# Altium integrated library ST Microcontroller 8-Bit.IntLib: 1326 symbols (part 15 of 45)
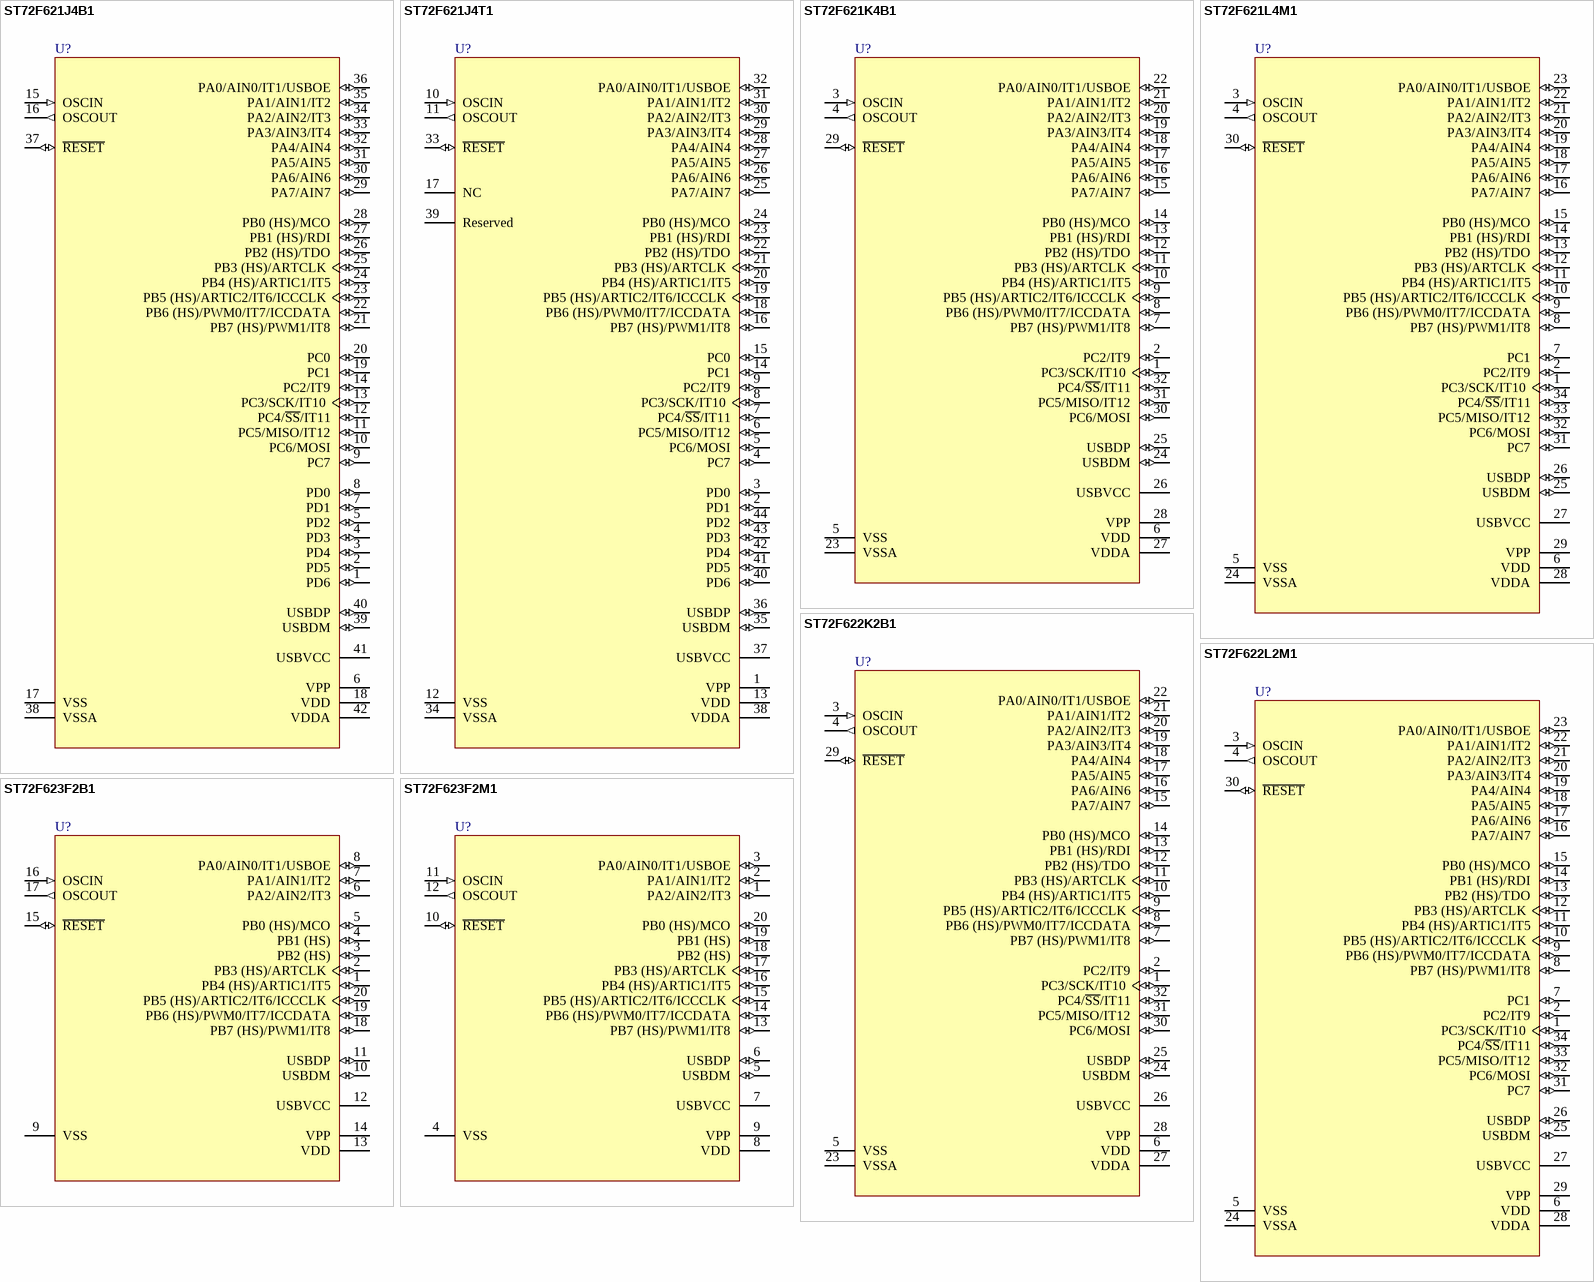
[diagram p181: symbols ST72F621J4B1 to ST72F623F2M1]

## ST72F622K2B1
designator U?
8-Bit MCU with 8k FLASH, 384b RAM, Low Speed USB, LVD, WDG, 10-Bit ADC, Two Timers and SPI, 32-Pin PDIP; Published: 26-May-2004; LatestRevisionDate: 06-Jun-2005; LatestRevisionNote: Stylized 3D Model Added.; DatasheetVersion: rev2.3, Oct-2003; PackageVersion: rev1.7, Oct-2001; PackageReference: PSDIP32; Publisher: Altium Limited; PackageDescription: DIP, Plastic Shrink; 32 Leads; Row Spacing 10.16 mm; Pitch 1.78 mm; ComponentLink1Description: Manufacturer Link; ComponentLink1URL: http://www.st.com/; ComponentLink2Description: Datasheet; ComponentLink2URL: http://www.st.com/stonline/products/literature/ds/6996/st72622k2.pdf
footprint PSDIP32 (DIP, Plastic Shrink; 32 Leads; Row Spacing 10.16 mm; Pitch 1.78 mm)
3D model PSDIP32 (DIP, Plastic Shrink; 32 Leads; Row Spacing 10.16 mm; Pitch 1.78 mm)
pins: 1 PC3/SCK/IT10 (io), 2 PC2/IT9 (io), 3 OSCIN (in), 4 OSCOUT (out), 5 VSS (power), 6 VDD (power), 7 PB7 (HS)/PWM1/IT8 (io), 8 PB6 (HS)/PWM0/IT7/ICCDATA (io), 9 PB5 (HS)/ARTIC2/IT6/ICCCLK (io), 10 PB4 (HS)/ARTIC1/IT5 (io), 11 PB3 (HS)/ARTCLK (io), 12 PB2 (HS)/TDO (io), 13 PB1 (HS)/RDI (io), 14 PB0 (HS)/MCO (io), 15 PA7/AIN7 (io), 16 PA6/AIN6 (io), 17 PA5/AIN5 (io), 18 PA4/AIN4 (io), 19 PA3/AIN3/IT4 (io), 20 PA2/AIN2/IT3 (io), 21 PA1/AIN1/IT2 (io), 22 PA0/AIN0/IT1/USBOE (io), 23 VSSA (power), 24 USBDM (io), 25 USBDP (io), 26 USBVCC (power), 27 VDDA (power), 28 VPP (power), 29 ~{RESET} (io), 30 PC6/MOSI (io), 31 PC5/MISO/IT12 (io), 32 PC4/~{SS}/IT11 (io)

## ST72F622L2M1
designator U?
8-Bit MCU with 8k FLASH, 384b RAM, Low Speed USB, LVD, WDG, 10-Bit ADC, Two Timers and SPI, 34-Pin SOIC; Published: 26-May-2004; LatestRevisionDate: 13-Apr-2006; LatestRevisionNote: IPC-7351 Footprint Added.; DatasheetVersion: rev2.3, Oct-2003; PackageVersion: rev1.7, Oct-2001; PackageReference: SO34S; Publisher: Altium Limited; PackageDescription: 34-Pin Small Outline Package 1.02 mm Pitch; ComponentLink1Description: Manufacturer Link; ComponentLink1URL: http://www.st.com/; ComponentLink2Description: Datasheet; ComponentLink2URL: http://www.st.com/stonline/products/literature/ds/6996/st72622l2.pdf
footprint SO34S_N (SOP, 34-Leads, Body 17.9x7.51mm, Pitch 1.02mm, IPC Medium Density)
footprint SO34S_L (SOP, 34-Leads, Body 17.9x7.51mm, Pitch 1.02mm, IPC High Density)
footprint SO34S_M (SOP, 34-Leads, Body 17.9x7.51mm, Pitch 1.02mm, IPC Low Density)
3D model SO34S (34-Pin Small Outline Package 1.02 mm Pitch)
pins: 1 PC3/SCK/IT10 (io), 2 PC2/IT9 (io), 3 OSCIN (in), 4 OSCOUT (out), 5 VSS (power), 6 VDD (power), 7 PC1 (io), 8 PB7 (HS)/PWM1/IT8 (io), 9 PB6 (HS)/PWM0/IT7/ICCDATA (io), 10 PB5 (HS)/ARTIC2/IT6/ICCCLK (io), 11 PB4 (HS)/ARTIC1/IT5 (io), 12 PB3 (HS)/ARTCLK (io), 13 PB2 (HS)/TDO (io), 14 PB1 (HS)/RDI (io), 15 PB0 (HS)/MCO (io), 16 PA7/AIN7 (io), 17 PA6/AIN6 (io), 18 PA5/AIN5 (io), 19 PA4/AIN4 (io), 20 PA3/AIN3/IT4 (io), 21 PA2/AIN2/IT3 (io), 22 PA1/AIN1/IT2 (io), 23 PA0/AIN0/IT1/USBOE (io), 24 VSSA (power), 25 USBDM (io), 26 USBDP (io), 27 USBVCC (power), 28 VDDA (power), 29 VPP (power), 30 ~{RESET} (io), 31 PC7 (io), 32 PC6/MOSI (io), 33 PC5/MISO/IT12 (io), 34 PC4/~{SS}/IT11 (io)

## ST72F623F2B1
designator U?
8-Bit MCU with 8k FLASH, 384b RAM, Low Speed USB, LVD, WDG, 10-Bit ADC and Two Timers, 20-Pin PDIP; Published: 26-May-2004; LatestRevisionDate: 06-Jun-2005; LatestRevisionNote: Stylized 3D Model Added.; DatasheetVersion: rev2.3, Oct-2003; PackageVersion: Jul-2003; PackageReference: PDIP20; Publisher: Altium Limited; PackageDescription: DIP; 20 Leads; Row Spacing 7.62 mm; Pitch 2.54 mm; Code_JEDEC: MS-001-AD; ComponentLink1Description: Manufacturer Link; ComponentLink1URL: http://www.st.com/; ComponentLink2Description: Datasheet; ComponentLink2URL: http://www.st.com/stonline/products/literature/ds/6996/st72623f2.pdf
footprint PDIP20 (DIP; 20 Leads; Row Spacing 7.62 mm; Pitch 2.54 mm)
3D model PDIP20 (DIP; 20 Leads; Row Spacing 7.62 mm; Pitch 2.54 mm)
pins: 1 PB4 (HS)/ARTIC1/IT5 (io), 2 PB3 (HS)/ARTCLK (io), 3 PB2 (HS) (io), 4 PB1 (HS) (io), 5 PB0 (HS)/MCO (io), 6 PA2/AIN2/IT3 (io), 7 PA1/AIN1/IT2 (io), 8 PA0/AIN0/IT1/USBOE (io), 9 VSS (power), 10 USBDM (io), 11 USBDP (io), 12 USBVCC (power), 13 VDD (power), 14 VPP (power), 15 ~{RESET} (io), 16 OSCIN (in), 17 OSCOUT (out), 18 PB7 (HS)/PWM1/IT8 (io), 19 PB6 (HS)/PWM0/IT7/ICCDATA (io), 20 PB5 (HS)/ARTIC2/IT6/ICCCLK (io)

## ST72F623F2M1
designator U?
8-Bit MCU with 8k FLASH, 384b RAM, Low Speed USB, LVD, WDG, 10-Bit ADC and Two Timers, 20-Pin SOIC; Published: 26-May-2004; LatestRevisionDate: 13-Apr-2006; LatestRevisionNote: IPC-7351 Footprint Added.; DatasheetVersion: rev2.3, Oct-2003; PackageVersion: Jul-2001; PackageReference: SO20; Publisher: Altium Limited; PackageDescription: 20-Pin Plastic Small Outline Integrated Circuit 1.27 mm Pitch; Code_JEDEC: MS-013-AC; Code_IPC: SOIC127P1030-20; ComponentLink1Description: Manufacturer Link; ComponentLink1URL: http://www.st.com/; ComponentLink2Description: Datasheet; ComponentLink2URL: http://www.st.com/stonline/products/literature/ds/6996/st72623f2.pdf
footprint SO20_N (SOIC, 20-Leads, Body 12.8x7.5mm, Pitch 1.27mm, IPC Medium Density)
footprint SO20_L (SOIC, 20-Leads, Body 12.8x7.5mm, Pitch 1.27mm, IPC High Density)
footprint SO20_M (SOIC, 20-Leads, Body 12.8x7.5mm, Pitch 1.27mm, IPC Low Density)
3D model SO20 (20-Pin Plastic Small Outline Integrated Circuit 1.27 mm Pitch)
pins: 1 PA2/AIN2/IT3 (io), 2 PA1/AIN1/IT2 (io), 3 PA0/AIN0/IT1/USBOE (io), 4 VSS (power), 5 USBDM (io), 6 USBDP (io), 7 USBVCC (power), 8 VDD (power), 9 VPP (power), 10 ~{RESET} (io), 11 OSCIN (in), 12 OSCOUT (out), 13 PB7 (HS)/PWM1/IT8 (io), 14 PB6 (HS)/PWM0/IT7/ICCDATA (io), 15 PB5 (HS)/ARTIC2/IT6/ICCCLK (io), 16 PB4 (HS)/ARTIC1/IT5 (io), 17 PB3 (HS)/ARTCLK (io), 18 PB2 (HS) (io), 19 PB1 (HS) (io), 20 PB0 (HS)/MCO (io)

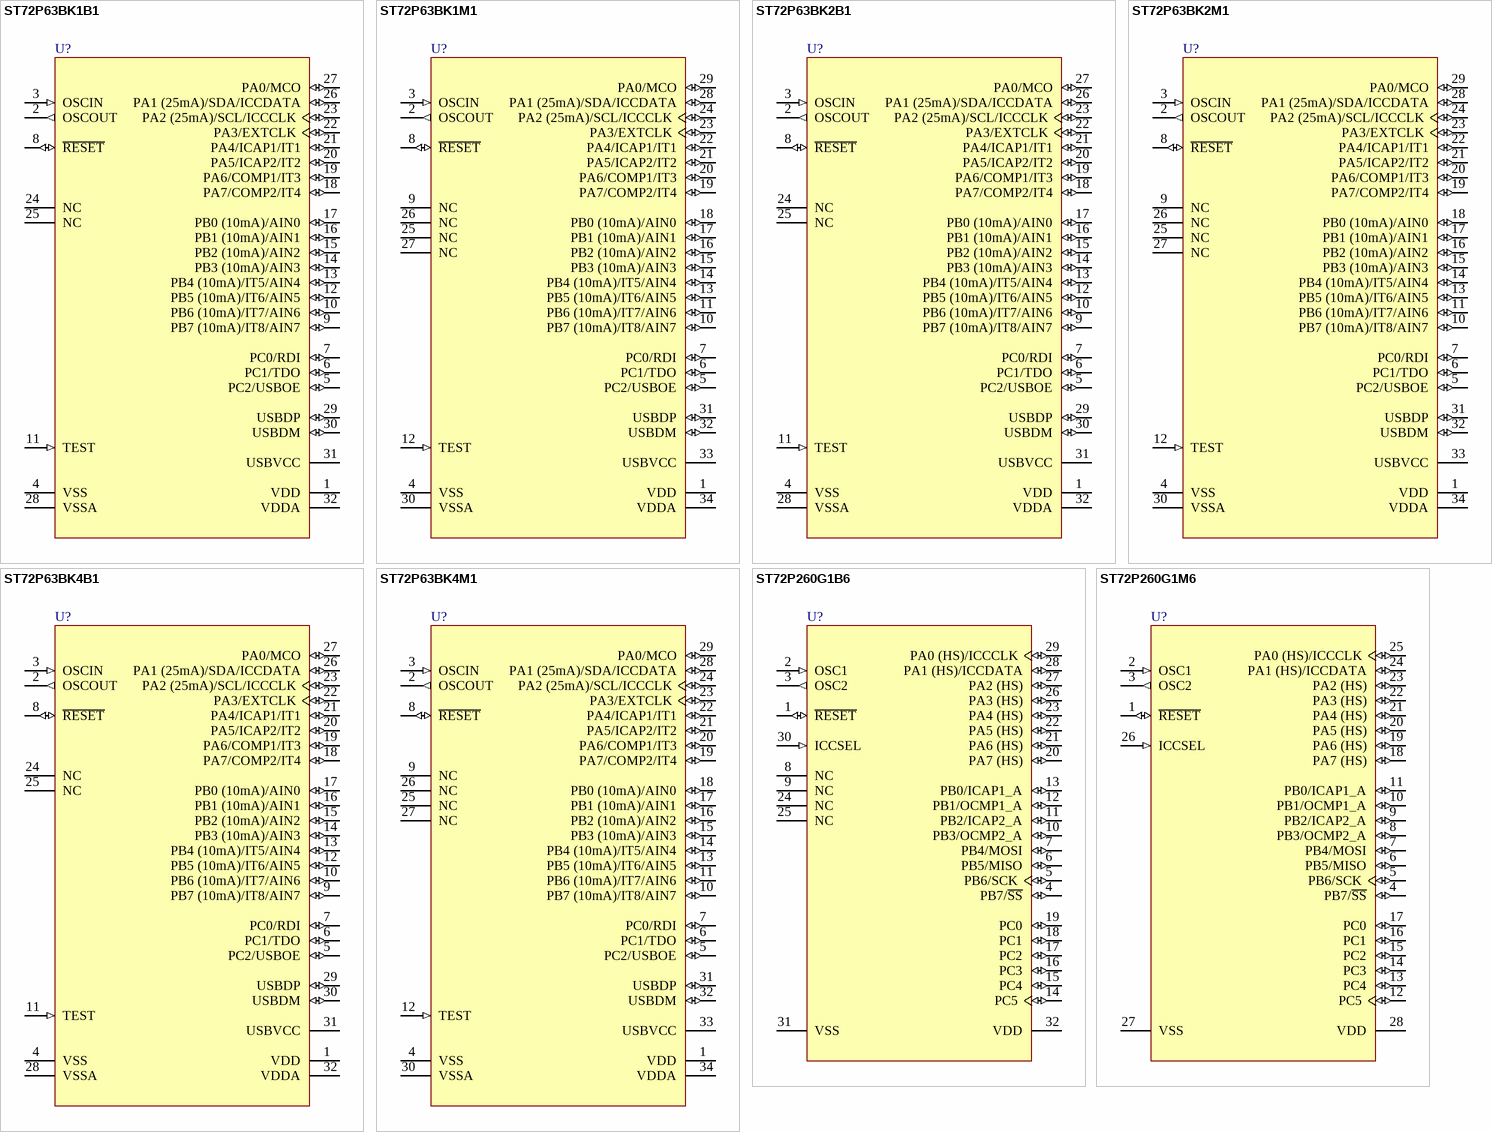
[diagram p45: symbols ST72P63BK1B1 to ST72P260G1M6]

## ST72P63BK1B1
designator U?
8-Bit MCU with 4k FASTROM, 384b RAM, Low Speed USB, 8-Bit ADC, WDG, Timer, 32-Pin PDIP; Published: 26-May-2004; LatestRevisionDate: 06-Jun-2005; LatestRevisionNote: Stylized 3D Model Added.; DatasheetVersion: rev1.5, Apr-2003; PackageVersion: rev1.7, Oct-2001; PackageReference: PSDIP32; Publisher: Altium Limited; PackageDescription: DIP, Plastic Shrink; 32 Leads; Row Spacing 10.16 mm; Pitch 1.78 mm; ComponentLink1Description: Manufacturer Link; ComponentLink1URL: http://www.st.com/; ComponentLink2Description: Datasheet; ComponentLink2URL: http://www.st.com/stonline/products/literature/ds/7516/st7263b.pdf
footprint PSDIP32 (DIP, Plastic Shrink; 32 Leads; Row Spacing 10.16 mm; Pitch 1.78 mm)
3D model PSDIP32 (DIP, Plastic Shrink; 32 Leads; Row Spacing 10.16 mm; Pitch 1.78 mm)
pins: 1 VDD (power), 2 OSCOUT (out), 3 OSCIN (in), 4 VSS (power), 5 PC2/USBOE (io), 6 PC1/TDO (io), 7 PC0/RDI (io), 8 ~{RESET} (io), 9 PB7 (10mA)/IT8/AIN7 (io), 10 PB6 (10mA)/IT7/AIN6 (io), 11 TEST (in), 12 PB5 (10mA)/IT6/AIN5 (io), 13 PB4 (10mA)/IT5/AIN4 (io), 14 PB3 (10mA)/AIN3 (io), 15 PB2 (10mA)/AIN2 (io), 16 PB1 (10mA)/AIN1 (io), 17 PB0 (10mA)/AIN0 (io), 18 PA7/COMP2/IT4 (io), 19 PA6/COMP1/IT3 (io), 20 PA5/ICAP2/IT2 (io), 21 PA4/ICAP1/IT1 (io), 22 PA3/EXTCLK (io), 23 PA2 (25mA)/SCL/ICCCLK (io), 24 NC, 25 NC, 26 PA1 (25mA)/SDA/ICCDATA (io), 27 PA0/MCO (io), 28 VSSA (power), 29 USBDP (io), 30 USBDM (io), 31 USBVCC (power), 32 VDDA (power)

## ST72P63BK1M1
designator U?
8-Bit MCU with 4k FASTROM, 384b RAM, Low Speed USB, 8-Bit ADC, WDG, Timer, 34-Pin SOIC; Published: 26-May-2004; LatestRevisionDate: 13-Apr-2006; LatestRevisionNote: IPC-7351 Footprint Added.; DatasheetVersion: rev1.5, Apr-2003; PackageVersion: rev1.7, Oct-2001; PackageReference: SO34S; Publisher: Altium Limited; PackageDescription: 34-Pin Small Outline Package 1.02 mm Pitch; ComponentLink1Description: Manufacturer Link; ComponentLink1URL: http://www.st.com/; ComponentLink2Description: Datasheet; ComponentLink2URL: http://www.st.com/stonline/products/literature/ds/7516/st7263b.pdf
footprint SO34S_N (SOP, 34-Leads, Body 17.9x7.51mm, Pitch 1.02mm, IPC Medium Density)
footprint SO34S_L (SOP, 34-Leads, Body 17.9x7.51mm, Pitch 1.02mm, IPC High Density)
footprint SO34S_M (SOP, 34-Leads, Body 17.9x7.51mm, Pitch 1.02mm, IPC Low Density)
3D model SO34S (34-Pin Small Outline Package 1.02 mm Pitch)
pins: 1 VDD (power), 2 OSCOUT (out), 3 OSCIN (in), 4 VSS (power), 5 PC2/USBOE (io), 6 PC1/TDO (io), 7 PC0/RDI (io), 8 ~{RESET} (io), 9 NC, 10 PB7 (10mA)/IT8/AIN7 (io), 11 PB6 (10mA)/IT7/AIN6 (io), 12 TEST (in), 13 PB5 (10mA)/IT6/AIN5 (io), 14 PB4 (10mA)/IT5/AIN4 (io), 15 PB3 (10mA)/AIN3 (io), 16 PB2 (10mA)/AIN2 (io), 17 PB1 (10mA)/AIN1 (io), 18 PB0 (10mA)/AIN0 (io), 19 PA7/COMP2/IT4 (io), 20 PA6/COMP1/IT3 (io), 21 PA5/ICAP2/IT2 (io), 22 PA4/ICAP1/IT1 (io), 23 PA3/EXTCLK (io), 24 PA2 (25mA)/SCL/ICCCLK (io), 25 NC, 26 NC, 27 NC, 28 PA1 (25mA)/SDA/ICCDATA (io), 29 PA0/MCO (io), 30 VSSA (power), 31 USBDP (io), 32 USBDM (io), 33 USBVCC (power), 34 VDDA (power)

## ST72P63BK2B1
designator U?
8-Bit MCU with 8k FASTROM, 384b RAM, Low Speed USB, 8-Bit ADC, WDG, Timer and SCI, 32-Pin PDIP; Published: 26-May-2004; LatestRevisionDate: 06-Jun-2005; LatestRevisionNote: Stylized 3D Model Added.; DatasheetVersion: rev1.5, Apr-2003; PackageVersion: rev1.7, Oct-2001; PackageReference: PSDIP32; Publisher: Altium Limited; PackageDescription: DIP, Plastic Shrink; 32 Leads; Row Spacing 10.16 mm; Pitch 1.78 mm; ComponentLink1Description: Manufacturer Link; ComponentLink1URL: http://www.st.com/; ComponentLink2Description: Datasheet; ComponentLink2URL: http://www.st.com/stonline/products/literature/ds/7516/st7263b.pdf
footprint PSDIP32 (DIP, Plastic Shrink; 32 Leads; Row Spacing 10.16 mm; Pitch 1.78 mm)
3D model PSDIP32 (DIP, Plastic Shrink; 32 Leads; Row Spacing 10.16 mm; Pitch 1.78 mm)
pins: 1 VDD (power), 2 OSCOUT (out), 3 OSCIN (in), 4 VSS (power), 5 PC2/USBOE (io), 6 PC1/TDO (io), 7 PC0/RDI (io), 8 ~{RESET} (io), 9 PB7 (10mA)/IT8/AIN7 (io), 10 PB6 (10mA)/IT7/AIN6 (io), 11 TEST (in), 12 PB5 (10mA)/IT6/AIN5 (io), 13 PB4 (10mA)/IT5/AIN4 (io), 14 PB3 (10mA)/AIN3 (io), 15 PB2 (10mA)/AIN2 (io), 16 PB1 (10mA)/AIN1 (io), 17 PB0 (10mA)/AIN0 (io), 18 PA7/COMP2/IT4 (io), 19 PA6/COMP1/IT3 (io), 20 PA5/ICAP2/IT2 (io), 21 PA4/ICAP1/IT1 (io), 22 PA3/EXTCLK (io), 23 PA2 (25mA)/SCL/ICCCLK (io), 24 NC, 25 NC, 26 PA1 (25mA)/SDA/ICCDATA (io), 27 PA0/MCO (io), 28 VSSA (power), 29 USBDP (io), 30 USBDM (io), 31 USBVCC (power), 32 VDDA (power)

## ST72P63BK2M1
designator U?
8-Bit MCU with 8k FASTROM, 384b RAM, Low Speed USB, 8-Bit ADC, WDG, Timer and SCI, 34-Pin SOIC; Published: 26-May-2004; LatestRevisionDate: 13-Apr-2006; LatestRevisionNote: IPC-7351 Footprint Added.; DatasheetVersion: rev1.5, Apr-2003; PackageVersion: rev1.7, Oct-2001; PackageReference: SO34S; Publisher: Altium Limited; PackageDescription: 34-Pin Small Outline Package 1.02 mm Pitch; ComponentLink1Description: Manufacturer Link; ComponentLink1URL: http://www.st.com/; ComponentLink2Description: Datasheet; ComponentLink2URL: http://www.st.com/stonline/products/literature/ds/7516/st7263b.pdf
footprint SO34S_N (SOP, 34-Leads, Body 17.9x7.51mm, Pitch 1.02mm, IPC Medium Density)
footprint SO34S_L (SOP, 34-Leads, Body 17.9x7.51mm, Pitch 1.02mm, IPC High Density)
footprint SO34S_M (SOP, 34-Leads, Body 17.9x7.51mm, Pitch 1.02mm, IPC Low Density)
3D model SO34S (34-Pin Small Outline Package 1.02 mm Pitch)
pins: 1 VDD (power), 2 OSCOUT (out), 3 OSCIN (in), 4 VSS (power), 5 PC2/USBOE (io), 6 PC1/TDO (io), 7 PC0/RDI (io), 8 ~{RESET} (io), 9 NC, 10 PB7 (10mA)/IT8/AIN7 (io), 11 PB6 (10mA)/IT7/AIN6 (io), 12 TEST (in), 13 PB5 (10mA)/IT6/AIN5 (io), 14 PB4 (10mA)/IT5/AIN4 (io), 15 PB3 (10mA)/AIN3 (io), 16 PB2 (10mA)/AIN2 (io), 17 PB1 (10mA)/AIN1 (io), 18 PB0 (10mA)/AIN0 (io), 19 PA7/COMP2/IT4 (io), 20 PA6/COMP1/IT3 (io), 21 PA5/ICAP2/IT2 (io), 22 PA4/ICAP1/IT1 (io), 23 PA3/EXTCLK (io), 24 PA2 (25mA)/SCL/ICCCLK (io), 25 NC, 26 NC, 27 NC, 28 PA1 (25mA)/SDA/ICCDATA (io), 29 PA0/MCO (io), 30 VSSA (power), 31 USBDP (io), 32 USBDM (io), 33 USBVCC (power), 34 VDDA (power)

## ST72P63BK4B1
designator U?
8-Bit MCU with 16k FASTROM, 512b RAM, Low Speed USB, 8-Bit ADC, WDG, Timer, SCI and I²C, 32-Pin PDIP; Published: 26-May-2004; LatestRevisionDate: 06-Jun-2005; LatestRevisionNote: Stylized 3D Model Added.; DatasheetVersion: rev1.5, Apr-2003; PackageVersion: rev1.7, Oct-2001; PackageReference: PSDIP32; Publisher: Altium Limited; PackageDescription: DIP, Plastic Shrink; 32 Leads; Row Spacing 10.16 mm; Pitch 1.78 mm; ComponentLink1Description: Manufacturer Link; ComponentLink1URL: http://www.st.com/; ComponentLink2Description: Datasheet; ComponentLink2URL: http://www.st.com/stonline/products/literature/ds/7516/st7263b.pdf
footprint PSDIP32 (DIP, Plastic Shrink; 32 Leads; Row Spacing 10.16 mm; Pitch 1.78 mm)
3D model PSDIP32 (DIP, Plastic Shrink; 32 Leads; Row Spacing 10.16 mm; Pitch 1.78 mm)
pins: 1 VDD (power), 2 OSCOUT (out), 3 OSCIN (in), 4 VSS (power), 5 PC2/USBOE (io), 6 PC1/TDO (io), 7 PC0/RDI (io), 8 ~{RESET} (io), 9 PB7 (10mA)/IT8/AIN7 (io), 10 PB6 (10mA)/IT7/AIN6 (io), 11 TEST (in), 12 PB5 (10mA)/IT6/AIN5 (io), 13 PB4 (10mA)/IT5/AIN4 (io), 14 PB3 (10mA)/AIN3 (io), 15 PB2 (10mA)/AIN2 (io), 16 PB1 (10mA)/AIN1 (io), 17 PB0 (10mA)/AIN0 (io), 18 PA7/COMP2/IT4 (io), 19 PA6/COMP1/IT3 (io), 20 PA5/ICAP2/IT2 (io), 21 PA4/ICAP1/IT1 (io), 22 PA3/EXTCLK (io), 23 PA2 (25mA)/SCL/ICCCLK (io), 24 NC, 25 NC, 26 PA1 (25mA)/SDA/ICCDATA (io), 27 PA0/MCO (io), 28 VSSA (power), 29 USBDP (io), 30 USBDM (io), 31 USBVCC (power), 32 VDDA (power)

## ST72P63BK4M1
designator U?
8-Bit MCU with 16k FASTROM, 512b RAM, Low Speed USB, 8-Bit ADC, WDG, Timer, SCI and I²C, 34-Pin SOIC; Published: 26-May-2004; LatestRevisionDate: 13-Apr-2006; LatestRevisionNote: IPC-7351 Footprint Added.; DatasheetVersion: rev1.5, Apr-2003; PackageVersion: rev1.7, Oct-2001; PackageReference: SO34S; Publisher: Altium Limited; PackageDescription: 34-Pin Small Outline Package 1.02 mm Pitch; ComponentLink1Description: Manufacturer Link; ComponentLink1URL: http://www.st.com/; ComponentLink2Description: Datasheet; ComponentLink2URL: http://www.st.com/stonline/products/literature/ds/7516/st7263b.pdf
footprint SO34S_N (SOP, 34-Leads, Body 17.9x7.51mm, Pitch 1.02mm, IPC Medium Density)
footprint SO34S_L (SOP, 34-Leads, Body 17.9x7.51mm, Pitch 1.02mm, IPC High Density)
footprint SO34S_M (SOP, 34-Leads, Body 17.9x7.51mm, Pitch 1.02mm, IPC Low Density)
3D model SO34S (34-Pin Small Outline Package 1.02 mm Pitch)
pins: 1 VDD (power), 2 OSCOUT (out), 3 OSCIN (in), 4 VSS (power), 5 PC2/USBOE (io), 6 PC1/TDO (io), 7 PC0/RDI (io), 8 ~{RESET} (io), 9 NC, 10 PB7 (10mA)/IT8/AIN7 (io), 11 PB6 (10mA)/IT7/AIN6 (io), 12 TEST (in), 13 PB5 (10mA)/IT6/AIN5 (io), 14 PB4 (10mA)/IT5/AIN4 (io), 15 PB3 (10mA)/AIN3 (io), 16 PB2 (10mA)/AIN2 (io), 17 PB1 (10mA)/AIN1 (io), 18 PB0 (10mA)/AIN0 (io), 19 PA7/COMP2/IT4 (io), 20 PA6/COMP1/IT3 (io), 21 PA5/ICAP2/IT2 (io), 22 PA4/ICAP1/IT1 (io), 23 PA3/EXTCLK (io), 24 PA2 (25mA)/SCL/ICCCLK (io), 25 NC, 26 NC, 27 NC, 28 PA1 (25mA)/SDA/ICCDATA (io), 29 PA0/MCO (io), 30 VSSA (power), 31 USBDP (io), 32 USBDM (io), 33 USBVCC (power), 34 VDDA (power)

## ST72P260G1B6
designator U?
8-Bit MCU with 4k FASTROM Memory, 256b RAM, 16-Bit Timers, WDG, RTC and SPI Interface, 32-Pin PDIP, Industrial; Published: 26-May-2004; LatestRevisionDate: 06-Jun-2005; LatestRevisionNote: Stylized 3D Model Added.; DatasheetVersion: rev1.8, Nov-2003; PackageVersion: rev1.7, Oct-2001; PackageReference: PSDIP32; Publisher: Altium Limited; PackageDescription: DIP, Plastic Shrink; 32 Leads; Row Spacing 10.16 mm; Pitch 1.78 mm; ComponentLink1Description: Manufacturer Link; ComponentLink1URL: http://www.st.com/; ComponentLink2Description: Datasheet; ComponentLink2URL: http://www.st.com/stonline/products/literature/ds/8347/st72260g.pdf
footprint PSDIP32 (DIP, Plastic Shrink; 32 Leads; Row Spacing 10.16 mm; Pitch 1.78 mm)
3D model PSDIP32 (DIP, Plastic Shrink; 32 Leads; Row Spacing 10.16 mm; Pitch 1.78 mm)
pins: 1 ~{RESET} (io), 2 OSC1 (in), 3 OSC2 (out), 4 PB7/~{SS} (io), 5 PB6/SCK (io), 6 PB5/MISO (io), 7 PB4/MOSI (io), 8 NC, 9 NC, 10 PB3/OCMP2_A (io), 11 PB2/ICAP2_A (io), 12 PB1/OCMP1_A (io), 13 PB0/ICAP1_A (io), 14 PC5 (io), 15 PC4 (io), 16 PC3 (io), 17 PC2 (io), 18 PC1 (io), 19 PC0 (io), 20 PA7 (HS) (io), 21 PA6 (HS) (io), 22 PA5 (HS) (io), 23 PA4 (HS) (io), 24 NC, 25 NC, 26 PA3 (HS) (io), 27 PA2 (HS) (io), 28 PA1 (HS)/ICCDATA (io), 29 PA0 (HS)/ICCCLK (io), 30 ICCSEL (in), 31 VSS (power), 32 VDD (power)

## ST72P260G1M6
designator U?
8-Bit MCU with 4k FASTROM Memory, 256b RAM, 16-Bit Timers, WDG, RTC and SPI Interface, 28-Pin SOIC, Industrial; Published: 26-May-2004; LatestRevisionDate: 13-Apr-2006; LatestRevisionNote: IPC-7351 Footprint Added.; DatasheetVersion: rev1.8, Nov-2003; PackageVersion: Jul-2001; PackageReference: SO28; Publisher: Altium Limited; PackageDescription: 28-Pin Plastic Small Outline Integrated Circuit 1.27 mm Pitch; ComponentLink1Description: Manufacturer Link; ComponentLink1URL: http://www.st.com/; ComponentLink2Description: Datasheet; ComponentLink2URL: http://www.st.com/stonline/products/literature/ds/8347/st72260g.pdf
footprint SO28_N (SOIC, 28-Leads, Body 17.9x7.5mm, Pitch 1.27mm, IPC Medium Density)
footprint SO28_L (SOIC, 28-Leads, Body 17.9x7.5mm, Pitch 1.27mm, IPC High Density)
footprint SO28_M (SOIC, 28-Leads, Body 17.9x7.5mm, Pitch 1.27mm, IPC Low Density)
3D model SO28 (28-Pin Plastic Small Outline Integrated Circuit 1.27 mm Pitch)
pins: 1 ~{RESET} (io), 2 OSC1 (in), 3 OSC2 (out), 4 PB7/~{SS} (io), 5 PB6/SCK (io), 6 PB5/MISO (io), 7 PB4/MOSI (io), 8 PB3/OCMP2_A (io), 9 PB2/ICAP2_A (io), 10 PB1/OCMP1_A (io), 11 PB0/ICAP1_A (io), 12 PC5 (io), 13 PC4 (io), 14 PC3 (io), 15 PC2 (io), 16 PC1 (io), 17 PC0 (io), 18 PA7 (HS) (io), 19 PA6 (HS) (io), 20 PA5 (HS) (io), 21 PA4 (HS) (io), 22 PA3 (HS) (io), 23 PA2 (HS) (io), 24 PA1 (HS)/ICCDATA (io), 25 PA0 (HS)/ICCCLK (io), 26 ICCSEL (in), 27 VSS (power), 28 VDD (power)

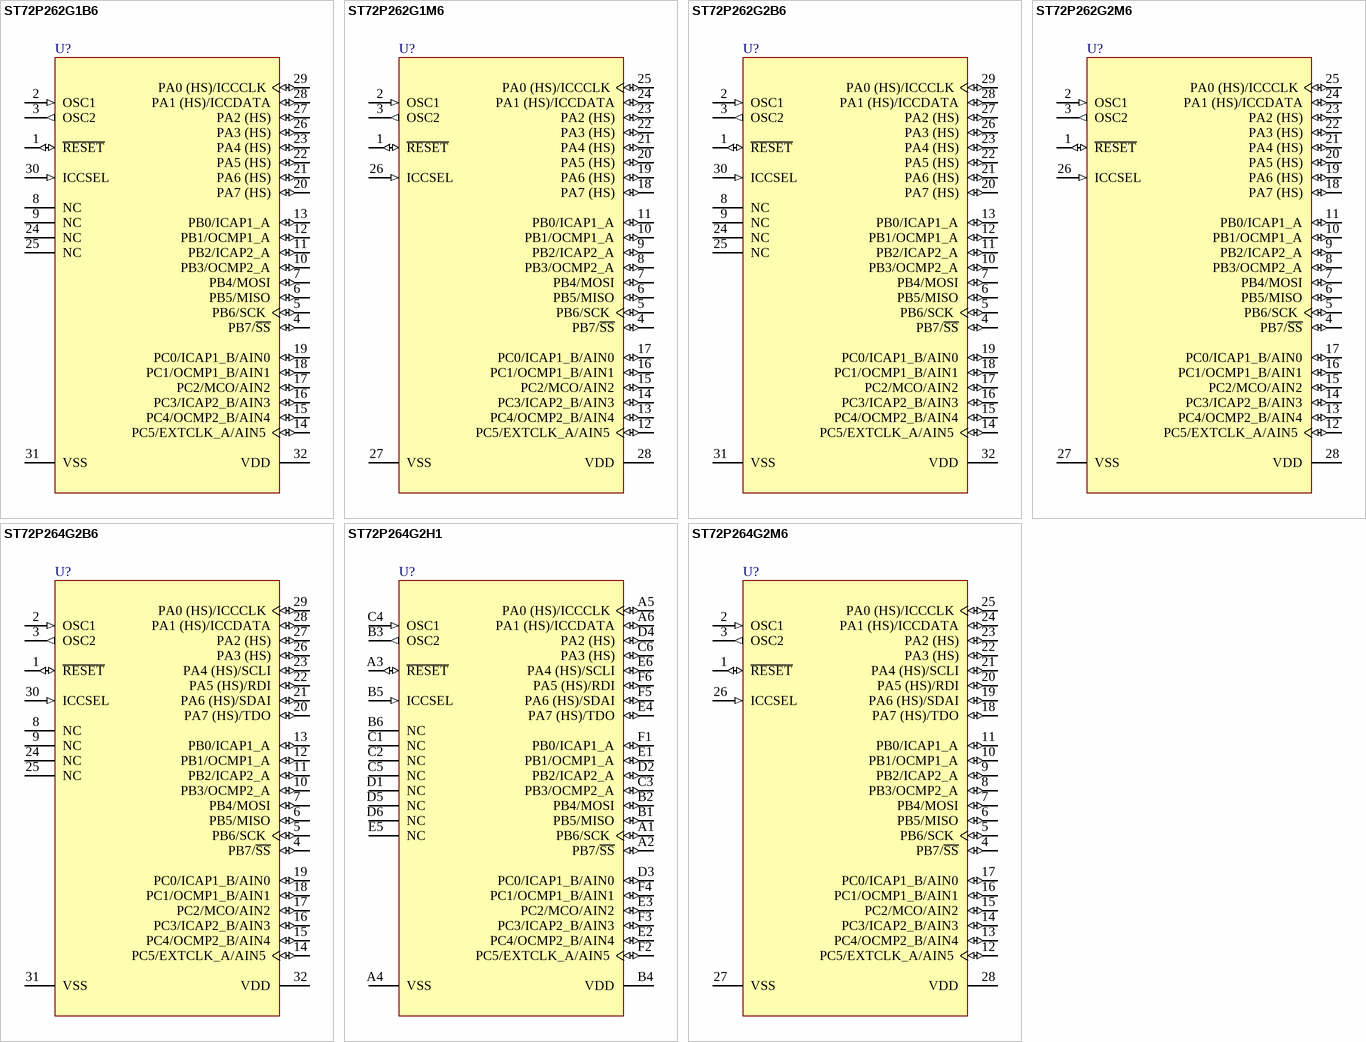
[diagram p46: symbols ST72P262G1B6 to ST72P264G2M6]

## ST72P262G1B6
designator U?
8-Bit MCU with 4k FASTROM Memory, 256b RAM, ADC, 16-Bit Timers, WDG, RTC and SPI Interface, 32-Pin PDIP, Industrial; Published: 26-May-2004; LatestRevisionDate: 06-Jun-2005; LatestRevisionNote: Stylized 3D Model Added.; DatasheetVersion: rev1.8, Nov-2003; PackageVersion: rev1.7, Oct-2001; PackageReference: PSDIP32; Publisher: Altium Limited; PackageDescription: DIP, Plastic Shrink; 32 Leads; Row Spacing 10.16 mm; Pitch 1.78 mm; ComponentLink1Description: Manufacturer Link; ComponentLink1URL: http://www.st.com/; ComponentLink2Description: Datasheet; ComponentLink2URL: http://www.st.com/stonline/products/literature/ds/8347/st72262g.pdf
footprint PSDIP32 (DIP, Plastic Shrink; 32 Leads; Row Spacing 10.16 mm; Pitch 1.78 mm)
3D model PSDIP32 (DIP, Plastic Shrink; 32 Leads; Row Spacing 10.16 mm; Pitch 1.78 mm)
pins: 1 ~{RESET} (io), 2 OSC1 (in), 3 OSC2 (out), 4 PB7/~{SS} (io), 5 PB6/SCK (io), 6 PB5/MISO (io), 7 PB4/MOSI (io), 8 NC, 9 NC, 10 PB3/OCMP2_A (io), 11 PB2/ICAP2_A (io), 12 PB1/OCMP1_A (io), 13 PB0/ICAP1_A (io), 14 PC5/EXTCLK_A/AIN5 (io), 15 PC4/OCMP2_B/AIN4 (io), 16 PC3/ICAP2_B/AIN3 (io), 17 PC2/MCO/AIN2 (io), 18 PC1/OCMP1_B/AIN1 (io), 19 PC0/ICAP1_B/AIN0 (io), 20 PA7 (HS) (io), 21 PA6 (HS) (io), 22 PA5 (HS) (io), 23 PA4 (HS) (io), 24 NC, 25 NC, 26 PA3 (HS) (io), 27 PA2 (HS) (io), 28 PA1 (HS)/ICCDATA (io), 29 PA0 (HS)/ICCCLK (io), 30 ICCSEL (in), 31 VSS (power), 32 VDD (power)

## ST72P262G1M6
designator U?
8-Bit MCU with 4k FASTROM Memory, 256b RAM, ADC, 16-Bit Timers, WDG, RTC and SPI Interface, 28-Pin SOIC, Industrial; Published: 26-May-2004; LatestRevisionDate: 13-Apr-2006; LatestRevisionNote: IPC-7351 Footprint Added.; DatasheetVersion: rev1.8, Nov-2003; PackageVersion: Jul-2001; PackageReference: SO28; Publisher: Altium Limited; PackageDescription: 28-Pin Plastic Small Outline Integrated Circuit 1.27 mm Pitch; ComponentLink1Description: Manufacturer Link; ComponentLink1URL: http://www.st.com/; ComponentLink2Description: Datasheet; ComponentLink2URL: http://www.st.com/stonline/products/literature/ds/8347/st72262g.pdf
footprint SO28_N (SOIC, 28-Leads, Body 17.9x7.5mm, Pitch 1.27mm, IPC Medium Density)
footprint SO28_L (SOIC, 28-Leads, Body 17.9x7.5mm, Pitch 1.27mm, IPC High Density)
footprint SO28_M (SOIC, 28-Leads, Body 17.9x7.5mm, Pitch 1.27mm, IPC Low Density)
3D model SO28 (28-Pin Plastic Small Outline Integrated Circuit 1.27 mm Pitch)
pins: 1 ~{RESET} (io), 2 OSC1 (in), 3 OSC2 (out), 4 PB7/~{SS} (io), 5 PB6/SCK (io), 6 PB5/MISO (io), 7 PB4/MOSI (io), 8 PB3/OCMP2_A (io), 9 PB2/ICAP2_A (io), 10 PB1/OCMP1_A (io), 11 PB0/ICAP1_A (io), 12 PC5/EXTCLK_A/AIN5 (io), 13 PC4/OCMP2_B/AIN4 (io), 14 PC3/ICAP2_B/AIN3 (io), 15 PC2/MCO/AIN2 (io), 16 PC1/OCMP1_B/AIN1 (io), 17 PC0/ICAP1_B/AIN0 (io), 18 PA7 (HS) (io), 19 PA6 (HS) (io), 20 PA5 (HS) (io), 21 PA4 (HS) (io), 22 PA3 (HS) (io), 23 PA2 (HS) (io), 24 PA1 (HS)/ICCDATA (io), 25 PA0 (HS)/ICCCLK (io), 26 ICCSEL (in), 27 VSS (power), 28 VDD (power)

## ST72P262G2B6
designator U?
8-Bit MCU with 8k FASTROM Memory, 256b RAM, ADC, 16-Bit Timers, WDG, RTC and SPI Interface, 32-Pin PDIP, Industrial; Published: 26-May-2004; LatestRevisionDate: 06-Jun-2005; LatestRevisionNote: Stylized 3D Model Added.; DatasheetVersion: rev1.8, Nov-2003; PackageVersion: rev1.7, Oct-2001; PackageReference: PSDIP32; Publisher: Altium Limited; PackageDescription: DIP, Plastic Shrink; 32 Leads; Row Spacing 10.16 mm; Pitch 1.78 mm; ComponentLink1Description: Manufacturer Link; ComponentLink1URL: http://www.st.com/; ComponentLink2Description: Datasheet; ComponentLink2URL: http://www.st.com/stonline/products/literature/ds/8347/st72262g.pdf
footprint PSDIP32 (DIP, Plastic Shrink; 32 Leads; Row Spacing 10.16 mm; Pitch 1.78 mm)
3D model PSDIP32 (DIP, Plastic Shrink; 32 Leads; Row Spacing 10.16 mm; Pitch 1.78 mm)
pins: 1 ~{RESET} (io), 2 OSC1 (in), 3 OSC2 (out), 4 PB7/~{SS} (io), 5 PB6/SCK (io), 6 PB5/MISO (io), 7 PB4/MOSI (io), 8 NC, 9 NC, 10 PB3/OCMP2_A (io), 11 PB2/ICAP2_A (io), 12 PB1/OCMP1_A (io), 13 PB0/ICAP1_A (io), 14 PC5/EXTCLK_A/AIN5 (io), 15 PC4/OCMP2_B/AIN4 (io), 16 PC3/ICAP2_B/AIN3 (io), 17 PC2/MCO/AIN2 (io), 18 PC1/OCMP1_B/AIN1 (io), 19 PC0/ICAP1_B/AIN0 (io), 20 PA7 (HS) (io), 21 PA6 (HS) (io), 22 PA5 (HS) (io), 23 PA4 (HS) (io), 24 NC, 25 NC, 26 PA3 (HS) (io), 27 PA2 (HS) (io), 28 PA1 (HS)/ICCDATA (io), 29 PA0 (HS)/ICCCLK (io), 30 ICCSEL (in), 31 VSS (power), 32 VDD (power)

## ST72P262G2M6
designator U?
8-Bit MCU with 8k FASTROM Memory, 256b RAM, ADC, 16-Bit Timers, WDG, RTC and SPI Interface, 28-Pin SOIC, Industrial; Published: 26-May-2004; LatestRevisionDate: 13-Apr-2006; LatestRevisionNote: IPC-7351 Footprint Added.; DatasheetVersion: rev1.8, Nov-2003; PackageVersion: Jul-2001; PackageReference: SO28; Publisher: Altium Limited; PackageDescription: 28-Pin Plastic Small Outline Integrated Circuit 1.27 mm Pitch; ComponentLink1Description: Manufacturer Link; ComponentLink1URL: http://www.st.com/; ComponentLink2Description: Datasheet; ComponentLink2URL: http://www.st.com/stonline/products/literature/ds/8347/st72262g.pdf
footprint SO28_N (SOIC, 28-Leads, Body 17.9x7.5mm, Pitch 1.27mm, IPC Medium Density)
footprint SO28_L (SOIC, 28-Leads, Body 17.9x7.5mm, Pitch 1.27mm, IPC High Density)
footprint SO28_M (SOIC, 28-Leads, Body 17.9x7.5mm, Pitch 1.27mm, IPC Low Density)
3D model SO28 (28-Pin Plastic Small Outline Integrated Circuit 1.27 mm Pitch)
pins: 1 ~{RESET} (io), 2 OSC1 (in), 3 OSC2 (out), 4 PB7/~{SS} (io), 5 PB6/SCK (io), 6 PB5/MISO (io), 7 PB4/MOSI (io), 8 PB3/OCMP2_A (io), 9 PB2/ICAP2_A (io), 10 PB1/OCMP1_A (io), 11 PB0/ICAP1_A (io), 12 PC5/EXTCLK_A/AIN5 (io), 13 PC4/OCMP2_B/AIN4 (io), 14 PC3/ICAP2_B/AIN3 (io), 15 PC2/MCO/AIN2 (io), 16 PC1/OCMP1_B/AIN1 (io), 17 PC0/ICAP1_B/AIN0 (io), 18 PA7 (HS) (io), 19 PA6 (HS) (io), 20 PA5 (HS) (io), 21 PA4 (HS) (io), 22 PA3 (HS) (io), 23 PA2 (HS) (io), 24 PA1 (HS)/ICCDATA (io), 25 PA0 (HS)/ICCCLK (io), 26 ICCSEL (in), 27 VSS (power), 28 VDD (power)

## ST72P264G2B6
designator U?
8-Bit MCU with 8k FASTROM Memory, 256b RAM, ADC, 16-Bit Timers, WDG, RTC, I²C, SPI and SCI Interfaces, 32-Pin PDIP, Industrial; Published: 26-May-2004; LatestRevisionDate: 06-Jun-2005; LatestRevisionNote: Stylized 3D Model Added.; DatasheetVersion: rev1.8, Nov-2003; PackageVersion: rev1.7, Oct-2001; PackageReference: PSDIP32; Publisher: Altium Limited; PackageDescription: DIP, Plastic Shrink; 32 Leads; Row Spacing 10.16 mm; Pitch 1.78 mm; ComponentLink1Description: Manufacturer Link; ComponentLink1URL: http://www.st.com/; ComponentLink2Description: Datasheet; ComponentLink2URL: http://www.st.com/stonline/products/literature/ds/8347/st72264g.pdf
footprint PSDIP32 (DIP, Plastic Shrink; 32 Leads; Row Spacing 10.16 mm; Pitch 1.78 mm)
3D model PSDIP32 (DIP, Plastic Shrink; 32 Leads; Row Spacing 10.16 mm; Pitch 1.78 mm)
pins: 1 ~{RESET} (io), 2 OSC1 (in), 3 OSC2 (out), 4 PB7/~{SS} (io), 5 PB6/SCK (io), 6 PB5/MISO (io), 7 PB4/MOSI (io), 8 NC, 9 NC, 10 PB3/OCMP2_A (io), 11 PB2/ICAP2_A (io), 12 PB1/OCMP1_A (io), 13 PB0/ICAP1_A (io), 14 PC5/EXTCLK_A/AIN5 (io), 15 PC4/OCMP2_B/AIN4 (io), 16 PC3/ICAP2_B/AIN3 (io), 17 PC2/MCO/AIN2 (io), 18 PC1/OCMP1_B/AIN1 (io), 19 PC0/ICAP1_B/AIN0 (io), 20 PA7 (HS)/TDO (io), 21 PA6 (HS)/SDAI (io), 22 PA5 (HS)/RDI (io), 23 PA4 (HS)/SCLI (io), 24 NC, 25 NC, 26 PA3 (HS) (io), 27 PA2 (HS) (io), 28 PA1 (HS)/ICCDATA (io), 29 PA0 (HS)/ICCCLK (io), 30 ICCSEL (in), 31 VSS (power), 32 VDD (power)

## ST72P264G2H1
designator U?
8-Bit MCU with 8k FASTROM Memory, 256b RAM, ADC, 16-Bit Timers, WDG, RTC, I²C, SPI and SCI Interfaces, 36-Ball BGA, Standard; Published: 26-May-2004; LatestRevisionDate: 13-Apr-2006; LatestRevisionNote: IPC-7351 Footprint Added.; DatasheetVersion: rev1.8, Nov-2003; PackageVersion: Nov-2003; PackageReference: LFBGA36; Publisher: Altium Limited; PackageDescription: 36-Ball Low Profile Ball Grid Array 0.8 mm Pitch; ComponentLink1Description: Manufacturer Link; ComponentLink1URL: http://www.st.com/; ComponentLink2Description: Datasheet; ComponentLink2URL: http://www.st.com/stonline/products/literature/ds/8347/st72264g.pdf
footprint LFBGA36 (BGA, 36-Leads, Body 6x6mm, Pitch 0.8mm)
3D model ST72P264-LFBGA36 (36-Ball Low Profile Ball Grid Array 0.8 mm Pitch)
pins: A1 PB6/SCK (io), A2 PB7/~{SS} (io), A3 ~{RESET} (io), A4 VSS (power), A5 PA0 (HS)/ICCCLK (io), A6 PA1 (HS)/ICCDATA (io), B1 PB5/MISO (io), B2 PB4/MOSI (io), B3 OSC2 (out), B4 VDD (power), B5 ICCSEL (in), B6 NC, C1 NC, C2 NC, C3 PB3/OCMP2_A (io), C4 OSC1 (in), C5 NC, C6 PA3 (HS) (io), D1 NC, D2 PB2/ICAP2_A (io), D3 PC0/ICAP1_B/AIN0 (io), D4 PA2 (HS) (io), D5 NC, D6 NC, E1 PB1/OCMP1_A (io), E2 PC4/OCMP2_B/AIN4 (io), E3 PC2/MCO/AIN2 (io), E4 PA7 (HS)/TDO (io), E5 NC, E6 PA4 (HS)/SCLI (io), F1 PB0/ICAP1_A (io), F2 PC5/EXTCLK_A/AIN5 (io), F3 PC3/ICAP2_B/AIN3 (io), F4 PC1/OCMP1_B/AIN1 (io), F5 PA6 (HS)/SDAI (io), F6 PA5 (HS)/RDI (io)

## ST72P264G2M6
designator U?
8-Bit MCU with 8k FASTROM Memory, 256b RAM, ADC, 16-Bit Timers, WDG, RTC, I²C, SPI and SCI Interfaces, 28-Pin SOIC, Industrial; Published: 26-May-2004; LatestRevisionDate: 13-Apr-2006; LatestRevisionNote: IPC-7351 Footprint Added.; DatasheetVersion: rev1.8, Nov-2003; PackageVersion: Jul-2001; PackageReference: SO28; Publisher: Altium Limited; PackageDescription: 28-Pin Plastic Small Outline Integrated Circuit 1.27 mm Pitch; ComponentLink1Description: Manufacturer Link; ComponentLink1URL: http://www.st.com/; ComponentLink2Description: Datasheet; ComponentLink2URL: http://www.st.com/stonline/products/literature/ds/8347/st72264g.pdf
footprint SO28_N (SOIC, 28-Leads, Body 17.9x7.5mm, Pitch 1.27mm, IPC Medium Density)
footprint SO28_L (SOIC, 28-Leads, Body 17.9x7.5mm, Pitch 1.27mm, IPC High Density)
footprint SO28_M (SOIC, 28-Leads, Body 17.9x7.5mm, Pitch 1.27mm, IPC Low Density)
3D model SO28 (28-Pin Plastic Small Outline Integrated Circuit 1.27 mm Pitch)
pins: 1 ~{RESET} (io), 2 OSC1 (in), 3 OSC2 (out), 4 PB7/~{SS} (io), 5 PB6/SCK (io), 6 PB5/MISO (io), 7 PB4/MOSI (io), 8 PB3/OCMP2_A (io), 9 PB2/ICAP2_A (io), 10 PB1/OCMP1_A (io), 11 PB0/ICAP1_A (io), 12 PC5/EXTCLK_A/AIN5 (io), 13 PC4/OCMP2_B/AIN4 (io), 14 PC3/ICAP2_B/AIN3 (io), 15 PC2/MCO/AIN2 (io), 16 PC1/OCMP1_B/AIN1 (io), 17 PC0/ICAP1_B/AIN0 (io), 18 PA7 (HS)/TDO (io), 19 PA6 (HS)/SDAI (io), 20 PA5 (HS)/RDI (io), 21 PA4 (HS)/SCLI (io), 22 PA3 (HS) (io), 23 PA2 (HS) (io), 24 PA1 (HS)/ICCDATA (io), 25 PA0 (HS)/ICCCLK (io), 26 ICCSEL (in), 27 VSS (power), 28 VDD (power)

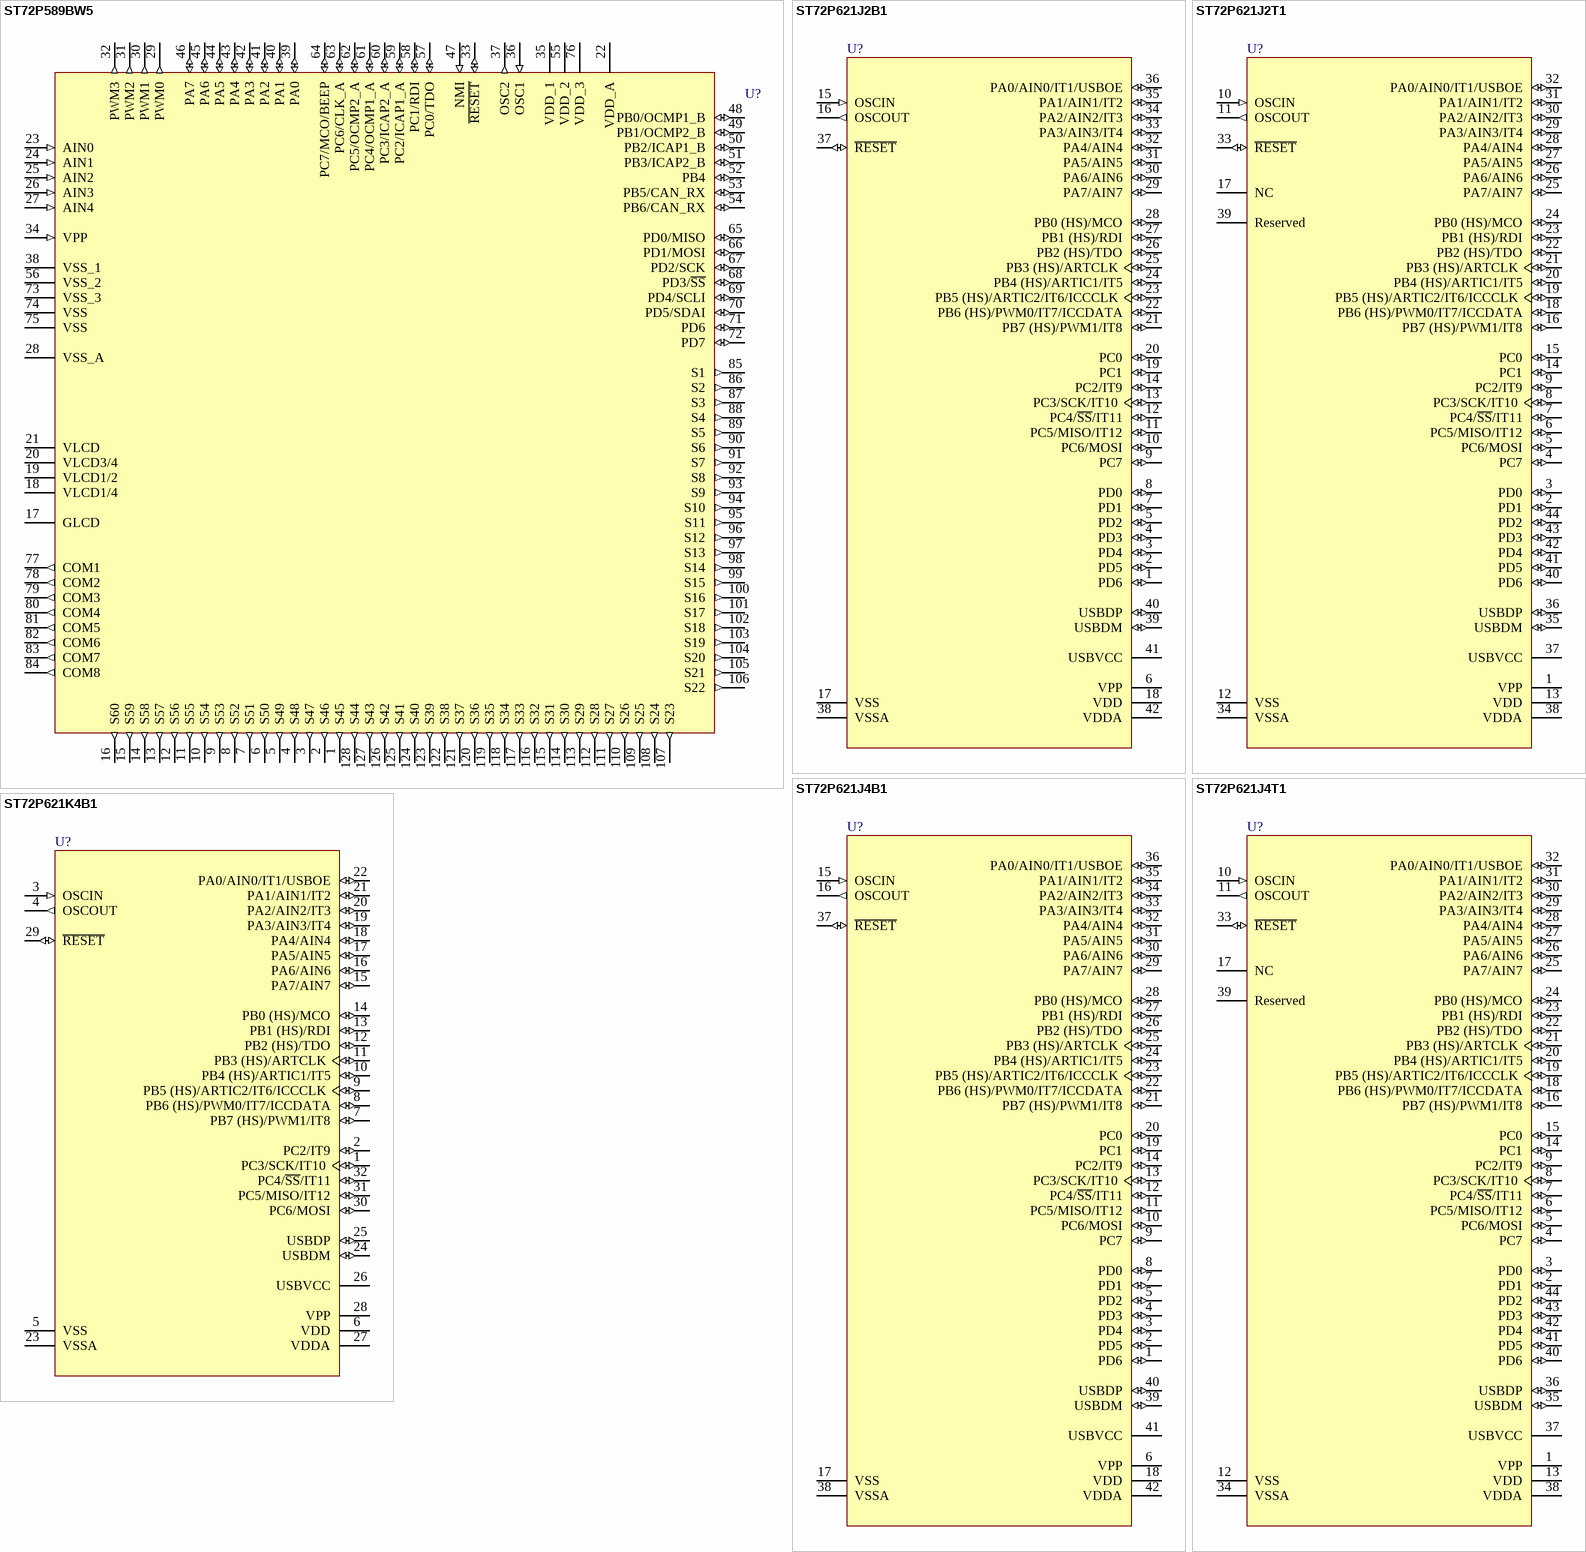
[diagram p47: symbols ST72P589BW5 to ST72P621K4B1]

## ST72P589BW5
designator U?
8-Bit 24k FASTROM MCU with Nested Interrupts, 1024b RAM, Dot Matrix LCD, ADC, Timers, PWM-BRM, SPI, SCI, I²C and CAN Interfaces, 128-Pin PQFP; Note: Pins 39-46, 58-54, 57-68, 71 and 72 are External Interrupt (EI) pins.; Published: 26-May-2004; LatestRevisionDate: 13-Apr-2006; LatestRevisionNote: IPC-7351 Footprint Added.; DatasheetVersion: rev2.7, Jun-2003; PackageVersion: Jun-2003; PackageReference: RQFP128; Publisher: Altium Limited; PackageDescription: 128-Pin Plastic Shrink Quad Flat Pack Rectangular 0.5 mm Pitch; ComponentLink1Description: Manufacturer Link; ComponentLink1URL: http://www.st.com/
footprint RQFP128_N (Shrink QFP, 128-Leads, Body 20x14 mm, Pitch 0.5mm, IPC Medium Density)
footprint RQFP128_L (Shrink QFP, 128-Leads, Body 20x14 mm, Pitch 0.5mm, IPC High Density)
footprint RQFP128_M (Shrink QFP, 128-Leads, Body 20x14 mm, Pitch 0.5mm, IPC Low Density)
3D model ST72P589-RQFP128 (128-Pin Plastic Shrink Quad Flat Pack Rectangular 0.5 mm Pitch)
pins: 1 S45 (out), 2 S46 (out), 3 S47 (out), 4 S48 (out), 5 S49 (out), 6 S50 (out), 7 S51 (out), 8 S52 (out), 9 S53 (out), 10 S54 (out), 11 S55 (out), 12 S56 (out), 13 S57 (out), 14 S58 (out), 15 S59 (out), 16 S60 (out), 17 GLCD (power), 18 VLCD1/4 (power), 19 VLCD1/2 (power), 20 VLCD3/4 (power), 21 VLCD (power), 22 VDD_A (power), 23 AIN0 (in), 24 AIN1 (in), 25 AIN2 (in), 26 AIN3 (in), 27 AIN4 (in), 28 VSS_A (power), 29 PWM0 (out), 30 PWM1 (out), 31 PWM2 (out), 32 PWM3 (out), 33 ~{RESET} (io), 34 VPP (in), 35 VDD_1 (power), 36 OSC1 (in), 37 OSC2 (out), 38 VSS_1 (power), 39 PA0 (io), 40 PA1 (io), 41 PA2 (io), 42 PA3 (io), 43 PA4 (io), 44 PA5 (io), 45 PA6 (io), 46 PA7 (io), 47 NMI (in), 48 PB0/OCMP1_B (io), 49 PB1/OCMP2_B (io), 50 PB2/ICAP1_B (io), 51 PB3/ICAP2_B (io), 52 PB4 (io), 53 PB5/CAN_RX (io), 54 PB6/CAN_RX (io), 55 VDD_2 (power), 56 VSS_2 (power), 57 PC0/TDO (io), 58 PC1/RDI (io), 59 PC2/ICAP1_A (io), 60 PC3/ICAP2_A (io), 61 PC4/OCMP1_A (io), 62 PC5/OCMP2_A (io), 63 PC6/CLK_A (io), 64 PC7/MCO/BEEP (io), 65 PD0/MISO (io), 66 PD1/MOSI (io), 67 PD2/SCK (io), 68 PD3/~{SS} (io), 69 PD4/SCLI (io), 70 PD5/SDAI (io), 71 PD6 (io), 72 PD7 (io), 73 VSS_3 (power), 74 VSS (power), 75 VSS (power), 76 VDD_3 (power), 77 COM1 (out), 78 COM2 (out), 79 COM3 (out), 80 COM4 (out), 81 COM5 (out), 82 COM6 (out), 83 COM7 (out), 84 COM8 (out), 85 S1 (out), 86 S2 (out), 87 S3 (out), 88 S4 (out), 89 S5 (out), 90 S6 (out), 91 S7 (out), 92 S8 (out), 93 S9 (out), 94 S10 (out), 95 S11 (out), 96 S12 (out), 97 S13 (out), 98 S14 (out), 99 S15 (out), 100 S16 (out), 101 S17 (out), 102 S18 (out), 103 S19 (out), 104 S20 (out), 105 S21 (out), 106 S22 (out), 107 S23 (out), 108 S24 (out), 109 S25 (out), 110 S26 (out), 111 S27 (out), 112 S28 (out), 113 S29 (out), 114 S30 (out), 115 S31 (out), 116 S32 (out), 117 S33 (out), 118 S34 (out), 119 S35 (out), 120 S36 (out), 121 S37 (out), 122 S38 (out), 123 S39 (out), 124 S40 (out), 125 S41 (out), 126 S42 (out), 127 S43 (out), 128 S44 (out)

## ST72P621J2B1
designator U?
8-Bit MCU with 8k FASTROM, 384b RAM, Low Speed USB, LVD, WDG, 10-Bit ADC, Two Timers, SCI and SPI, 42-Pin PDIP; Published: 26-May-2004; LatestRevisionDate: 06-Jun-2005; LatestRevisionNote: Stylized 3D Model Added.; DatasheetVersion: rev2.3, Oct-2003; PackageVersion: Oct-2003; PackageReference: PSDIP42; Publisher: Altium Limited; PackageDescription: DIP, Plastic Shrink; 42 Leads; Row Spacing 15.24 mm; Pitch 1.78 mm; ComponentLink1Description: Manufacturer Link; ComponentLink1URL: http://www.st.com/; ComponentLink2Description: Datasheet; ComponentLink2URL: http://www.st.com/stonline/products/literature/ds/6996/st72621j2.pdf
footprint PSDIP42 (DIP, Plastic Shrink; 42 Leads; Row Spacing 15.24 mm; Pitch 1.78 mm)
3D model PSDIP42 (DIP, Plastic Shrink; 42 Leads; Row Spacing 15.24 mm; Pitch 1.78 mm)
pins: 1 PD6 (io), 2 PD5 (io), 3 PD4 (io), 4 PD3 (io), 5 PD2 (io), 6 VPP (power), 7 PD1 (io), 8 PD0 (io), 9 PC7 (io), 10 PC6/MOSI (io), 11 PC5/MISO/IT12 (io), 12 PC4/~{SS}/IT11 (io), 13 PC3/SCK/IT10 (io), 14 PC2/IT9 (io), 15 OSCIN (in), 16 OSCOUT (out), 17 VSS (power), 18 VDD (power), 19 PC1 (io), 20 PC0 (io), 21 PB7 (HS)/PWM1/IT8 (io), 22 PB6 (HS)/PWM0/IT7/ICCDATA (io), 23 PB5 (HS)/ARTIC2/IT6/ICCCLK (io), 24 PB4 (HS)/ARTIC1/IT5 (io), 25 PB3 (HS)/ARTCLK (io), 26 PB2 (HS)/TDO (io), 27 PB1 (HS)/RDI (io), 28 PB0 (HS)/MCO (io), 29 PA7/AIN7 (io), 30 PA6/AIN6 (io), 31 PA5/AIN5 (io), 32 PA4/AIN4 (io), 33 PA3/AIN3/IT4 (io), 34 PA2/AIN2/IT3 (io), 35 PA1/AIN1/IT2 (io), 36 PA0/AIN0/IT1/USBOE (io), 37 ~{RESET} (io), 38 VSSA (power), 39 USBDM (io), 40 USBDP (io), 41 USBVCC (power), 42 VDDA (power)

## ST72P621J2T1
designator U?
8-Bit MCU with 8k FASTROM, 384b RAM, Low Speed USB, LVD, WDG, 10-Bit ADC, Two Timers, SCI and SPI, 44-Pin TQFP; Published: 26-May-2004; LatestRevisionDate: 13-Apr-2006; LatestRevisionNote: IPC-7351 Footprint Added.; DatasheetVersion: rev2.3, Oct-2003; PackageVersion: Oct-2003; PackageReference: TQFP44; Publisher: Altium Limited; PackageDescription: 44-Pin Thin Plastic Quad Flat Pack 0.8 mm Pitch; ComponentLink1Description: Manufacturer Link; ComponentLink1URL: http://www.st.com/; ComponentLink2Description: Datasheet; ComponentLink2URL: http://www.st.com/stonline/products/literature/ds/6996/st72621j2.pdf
footprint TQFP44_N (Thin QFP, 44-Leads, Body 10x10mm, Pitch 0.8mm, IPC Medium Density)
footprint TQFP44_L (Thin QFP, 44-Leads, Body 10x10mm, Pitch 0.8mm, IPC High Density)
footprint TQFP44_M (Thin QFP, 44-Leads, Body 10x10mm, Pitch 0.8mm, IPC Low Density)
3D model ST72P621-TQFP44 (44-Pin Thin Plastic Quad Flat Pack 0.8 mm Pitch)
pins: 1 VPP (power), 2 PD1 (io), 3 PD0 (io), 4 PC7 (io), 5 PC6/MOSI (io), 6 PC5/MISO/IT12 (io), 7 PC4/~{SS}/IT11 (io), 8 PC3/SCK/IT10 (io), 9 PC2/IT9 (io), 10 OSCIN (in), 11 OSCOUT (out), 12 VSS (power), 13 VDD (power), 14 PC1 (io), 15 PC0 (io), 16 PB7 (HS)/PWM1/IT8 (io), 17 NC, 18 PB6 (HS)/PWM0/IT7/ICCDATA (io), 19 PB5 (HS)/ARTIC2/IT6/ICCCLK (io), 20 PB4 (HS)/ARTIC1/IT5 (io), 21 PB3 (HS)/ARTCLK (io), 22 PB2 (HS)/TDO (io), 23 PB1 (HS)/RDI (io), 24 PB0 (HS)/MCO (io), 25 PA7/AIN7 (io), 26 PA6/AIN6 (io), 27 PA5/AIN5 (io), 28 PA4/AIN4 (io), 29 PA3/AIN3/IT4 (io), 30 PA2/AIN2/IT3 (io), 31 PA1/AIN1/IT2 (io), 32 PA0/AIN0/IT1/USBOE (io), 33 ~{RESET} (io), 34 VSSA (power), 35 USBDM (io), 36 USBDP (io), 37 USBVCC (power), 38 VDDA (power), 39 Reserved, 40 PD6 (io), 41 PD5 (io), 42 PD4 (io), 43 PD3 (io), 44 PD2 (io)

## ST72P621J4B1
designator U?
8-Bit MCU with 16k FASTROM, 768b RAM, Low Speed USB, LVD, WDG, 10-Bit ADC, Two Timers, SCI and SPI, 42-Pin PDIP; Published: 26-May-2004; LatestRevisionDate: 06-Jun-2005; LatestRevisionNote: Stylized 3D Model Added.; DatasheetVersion: rev2.3, Oct-2003; PackageVersion: Oct-2003; PackageReference: PSDIP42; Publisher: Altium Limited; PackageDescription: DIP, Plastic Shrink; 42 Leads; Row Spacing 15.24 mm; Pitch 1.78 mm; ComponentLink1Description: Manufacturer Link; ComponentLink1URL: http://www.st.com/; ComponentLink2Description: Datasheet; ComponentLink2URL: http://www.st.com/stonline/products/literature/ds/6996/st72621j4.pdf
footprint PSDIP42 (DIP, Plastic Shrink; 42 Leads; Row Spacing 15.24 mm; Pitch 1.78 mm)
3D model PSDIP42 (DIP, Plastic Shrink; 42 Leads; Row Spacing 15.24 mm; Pitch 1.78 mm)
pins: 1 PD6 (io), 2 PD5 (io), 3 PD4 (io), 4 PD3 (io), 5 PD2 (io), 6 VPP (power), 7 PD1 (io), 8 PD0 (io), 9 PC7 (io), 10 PC6/MOSI (io), 11 PC5/MISO/IT12 (io), 12 PC4/~{SS}/IT11 (io), 13 PC3/SCK/IT10 (io), 14 PC2/IT9 (io), 15 OSCIN (in), 16 OSCOUT (out), 17 VSS (power), 18 VDD (power), 19 PC1 (io), 20 PC0 (io), 21 PB7 (HS)/PWM1/IT8 (io), 22 PB6 (HS)/PWM0/IT7/ICCDATA (io), 23 PB5 (HS)/ARTIC2/IT6/ICCCLK (io), 24 PB4 (HS)/ARTIC1/IT5 (io), 25 PB3 (HS)/ARTCLK (io), 26 PB2 (HS)/TDO (io), 27 PB1 (HS)/RDI (io), 28 PB0 (HS)/MCO (io), 29 PA7/AIN7 (io), 30 PA6/AIN6 (io), 31 PA5/AIN5 (io), 32 PA4/AIN4 (io), 33 PA3/AIN3/IT4 (io), 34 PA2/AIN2/IT3 (io), 35 PA1/AIN1/IT2 (io), 36 PA0/AIN0/IT1/USBOE (io), 37 ~{RESET} (io), 38 VSSA (power), 39 USBDM (io), 40 USBDP (io), 41 USBVCC (power), 42 VDDA (power)

## ST72P621J4T1
designator U?
8-Bit MCU with 16k FASTROM, 768b RAM, Low Speed USB, LVD, WDG, 10-Bit ADC, Two Timers, SCI and SPI, 44-Pin TQFP; Published: 26-May-2004; LatestRevisionDate: 13-Apr-2006; LatestRevisionNote: IPC-7351 Footprint Added.; DatasheetVersion: rev2.3, Oct-2003; PackageVersion: Oct-2003; PackageReference: TQFP44; Publisher: Altium Limited; PackageDescription: 44-Pin Thin Plastic Quad Flat Pack 0.8 mm Pitch; ComponentLink1Description: Manufacturer Link; ComponentLink1URL: http://www.st.com/; ComponentLink2Description: Datasheet; ComponentLink2URL: http://www.st.com/stonline/products/literature/ds/6996/st72621j4.pdf
footprint TQFP44_N (Thin QFP, 44-Leads, Body 10x10mm, Pitch 0.8mm, IPC Medium Density)
footprint TQFP44_L (Thin QFP, 44-Leads, Body 10x10mm, Pitch 0.8mm, IPC High Density)
footprint TQFP44_M (Thin QFP, 44-Leads, Body 10x10mm, Pitch 0.8mm, IPC Low Density)
3D model ST72P621-TQFP44 (44-Pin Thin Plastic Quad Flat Pack 0.8 mm Pitch)
pins: 1 VPP (power), 2 PD1 (io), 3 PD0 (io), 4 PC7 (io), 5 PC6/MOSI (io), 6 PC5/MISO/IT12 (io), 7 PC4/~{SS}/IT11 (io), 8 PC3/SCK/IT10 (io), 9 PC2/IT9 (io), 10 OSCIN (in), 11 OSCOUT (out), 12 VSS (power), 13 VDD (power), 14 PC1 (io), 15 PC0 (io), 16 PB7 (HS)/PWM1/IT8 (io), 17 NC, 18 PB6 (HS)/PWM0/IT7/ICCDATA (io), 19 PB5 (HS)/ARTIC2/IT6/ICCCLK (io), 20 PB4 (HS)/ARTIC1/IT5 (io), 21 PB3 (HS)/ARTCLK (io), 22 PB2 (HS)/TDO (io), 23 PB1 (HS)/RDI (io), 24 PB0 (HS)/MCO (io), 25 PA7/AIN7 (io), 26 PA6/AIN6 (io), 27 PA5/AIN5 (io), 28 PA4/AIN4 (io), 29 PA3/AIN3/IT4 (io), 30 PA2/AIN2/IT3 (io), 31 PA1/AIN1/IT2 (io), 32 PA0/AIN0/IT1/USBOE (io), 33 ~{RESET} (io), 34 VSSA (power), 35 USBDM (io), 36 USBDP (io), 37 USBVCC (power), 38 VDDA (power), 39 Reserved, 40 PD6 (io), 41 PD5 (io), 42 PD4 (io), 43 PD3 (io), 44 PD2 (io)

## ST72P621K4B1
designator U?
8-Bit MCU with 16k FASTROM, 768b RAM, Low Speed USB, LVD, WDG, 10-Bit ADC, Two Timers, SCI and SPI, 32-Pin PDIP; Published: 26-May-2004; LatestRevisionDate: 06-Jun-2005; LatestRevisionNote: Stylized 3D Model Added.; DatasheetVersion: rev2.3, Oct-2003; PackageVersion: rev1.7, Oct-2001; PackageReference: PSDIP32; Publisher: Altium Limited; PackageDescription: DIP, Plastic Shrink; 32 Leads; Row Spacing 10.16 mm; Pitch 1.78 mm; ComponentLink1Description: Manufacturer Link; ComponentLink1URL: http://www.st.com/; ComponentLink2Description: Datasheet; ComponentLink2URL: http://www.st.com/stonline/products/literature/ds/6996/st72621k4.pdf
footprint PSDIP32 (DIP, Plastic Shrink; 32 Leads; Row Spacing 10.16 mm; Pitch 1.78 mm)
3D model PSDIP32 (DIP, Plastic Shrink; 32 Leads; Row Spacing 10.16 mm; Pitch 1.78 mm)
pins: 1 PC3/SCK/IT10 (io), 2 PC2/IT9 (io), 3 OSCIN (in), 4 OSCOUT (out), 5 VSS (power), 6 VDD (power), 7 PB7 (HS)/PWM1/IT8 (io), 8 PB6 (HS)/PWM0/IT7/ICCDATA (io), 9 PB5 (HS)/ARTIC2/IT6/ICCCLK (io), 10 PB4 (HS)/ARTIC1/IT5 (io), 11 PB3 (HS)/ARTCLK (io), 12 PB2 (HS)/TDO (io), 13 PB1 (HS)/RDI (io), 14 PB0 (HS)/MCO (io), 15 PA7/AIN7 (io), 16 PA6/AIN6 (io), 17 PA5/AIN5 (io), 18 PA4/AIN4 (io), 19 PA3/AIN3/IT4 (io), 20 PA2/AIN2/IT3 (io), 21 PA1/AIN1/IT2 (io), 22 PA0/AIN0/IT1/USBOE (io), 23 VSSA (power), 24 USBDM (io), 25 USBDP (io), 26 USBVCC (power), 27 VDDA (power), 28 VPP (power), 29 ~{RESET} (io), 30 PC6/MOSI (io), 31 PC5/MISO/IT12 (io), 32 PC4/~{SS}/IT11 (io)

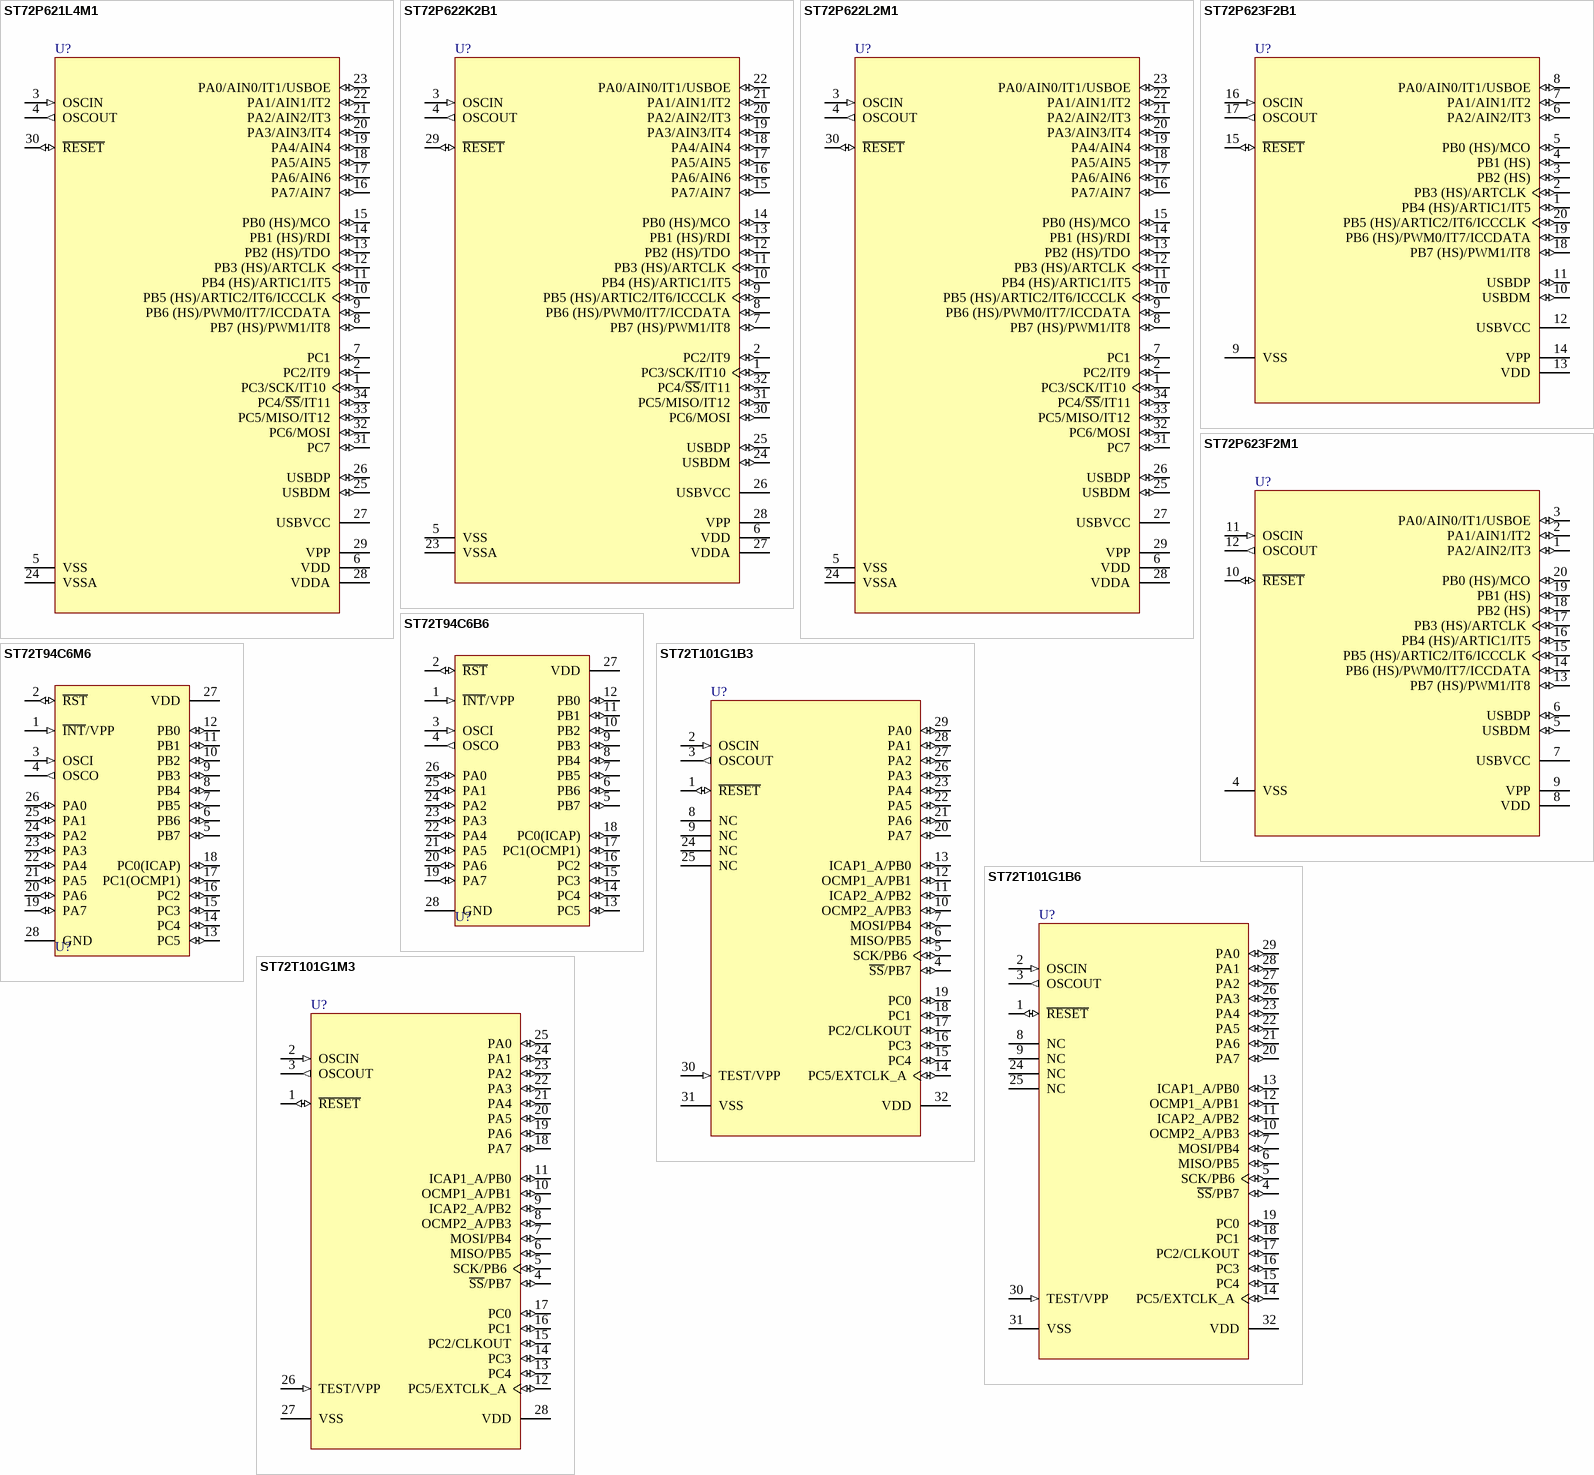
[diagram p48: symbols ST72P621L4M1 to ST72T101G1M3]

## ST72P621L4M1
designator U?
8-Bit MCU with 16k FASTROM, 768b RAM, Low Speed USB, LVD, WDG, 10-Bit ADC, Two Timers, SCI and SPI, 34-Pin SOIC; Published: 26-May-2004; LatestRevisionDate: 13-Apr-2006; LatestRevisionNote: IPC-7351 Footprint Added.; DatasheetVersion: rev2.3, Oct-2003; PackageVersion: rev1.7, Oct-2001; PackageReference: SO34S; Publisher: Altium Limited; PackageDescription: 34-Pin Small Outline Package 1.02 mm Pitch; ComponentLink1Description: Manufacturer Link; ComponentLink1URL: http://www.st.com/; ComponentLink2Description: Datasheet; ComponentLink2URL: http://www.st.com/stonline/products/literature/ds/6996/st72621l4.pdf
footprint SO34S_N (SOP, 34-Leads, Body 17.9x7.51mm, Pitch 1.02mm, IPC Medium Density)
footprint SO34S_L (SOP, 34-Leads, Body 17.9x7.51mm, Pitch 1.02mm, IPC High Density)
footprint SO34S_M (SOP, 34-Leads, Body 17.9x7.51mm, Pitch 1.02mm, IPC Low Density)
3D model SO34S (34-Pin Small Outline Package 1.02 mm Pitch)
pins: 1 PC3/SCK/IT10 (io), 2 PC2/IT9 (io), 3 OSCIN (in), 4 OSCOUT (out), 5 VSS (power), 6 VDD (power), 7 PC1 (io), 8 PB7 (HS)/PWM1/IT8 (io), 9 PB6 (HS)/PWM0/IT7/ICCDATA (io), 10 PB5 (HS)/ARTIC2/IT6/ICCCLK (io), 11 PB4 (HS)/ARTIC1/IT5 (io), 12 PB3 (HS)/ARTCLK (io), 13 PB2 (HS)/TDO (io), 14 PB1 (HS)/RDI (io), 15 PB0 (HS)/MCO (io), 16 PA7/AIN7 (io), 17 PA6/AIN6 (io), 18 PA5/AIN5 (io), 19 PA4/AIN4 (io), 20 PA3/AIN3/IT4 (io), 21 PA2/AIN2/IT3 (io), 22 PA1/AIN1/IT2 (io), 23 PA0/AIN0/IT1/USBOE (io), 24 VSSA (power), 25 USBDM (io), 26 USBDP (io), 27 USBVCC (power), 28 VDDA (power), 29 VPP (power), 30 ~{RESET} (io), 31 PC7 (io), 32 PC6/MOSI (io), 33 PC5/MISO/IT12 (io), 34 PC4/~{SS}/IT11 (io)

## ST72P622K2B1
designator U?
8-Bit MCU with 8k FASTROM, 384b RAM, Low Speed USB, LVD, WDG, 10-Bit ADC, Two Timers and SPI, 32-Pin PDIP; Published: 26-May-2004; LatestRevisionDate: 06-Jun-2005; LatestRevisionNote: Stylized 3D Model Added.; DatasheetVersion: rev2.3, Oct-2003; PackageVersion: rev1.7, Oct-2001; PackageReference: PSDIP32; Publisher: Altium Limited; PackageDescription: DIP, Plastic Shrink; 32 Leads; Row Spacing 10.16 mm; Pitch 1.78 mm; ComponentLink1Description: Manufacturer Link; ComponentLink1URL: http://www.st.com/; ComponentLink2Description: Datasheet; ComponentLink2URL: http://www.st.com/stonline/products/literature/ds/6996/st72622k2.pdf
footprint PSDIP32 (DIP, Plastic Shrink; 32 Leads; Row Spacing 10.16 mm; Pitch 1.78 mm)
3D model PSDIP32 (DIP, Plastic Shrink; 32 Leads; Row Spacing 10.16 mm; Pitch 1.78 mm)
pins: 1 PC3/SCK/IT10 (io), 2 PC2/IT9 (io), 3 OSCIN (in), 4 OSCOUT (out), 5 VSS (power), 6 VDD (power), 7 PB7 (HS)/PWM1/IT8 (io), 8 PB6 (HS)/PWM0/IT7/ICCDATA (io), 9 PB5 (HS)/ARTIC2/IT6/ICCCLK (io), 10 PB4 (HS)/ARTIC1/IT5 (io), 11 PB3 (HS)/ARTCLK (io), 12 PB2 (HS)/TDO (io), 13 PB1 (HS)/RDI (io), 14 PB0 (HS)/MCO (io), 15 PA7/AIN7 (io), 16 PA6/AIN6 (io), 17 PA5/AIN5 (io), 18 PA4/AIN4 (io), 19 PA3/AIN3/IT4 (io), 20 PA2/AIN2/IT3 (io), 21 PA1/AIN1/IT2 (io), 22 PA0/AIN0/IT1/USBOE (io), 23 VSSA (power), 24 USBDM (io), 25 USBDP (io), 26 USBVCC (power), 27 VDDA (power), 28 VPP (power), 29 ~{RESET} (io), 30 PC6/MOSI (io), 31 PC5/MISO/IT12 (io), 32 PC4/~{SS}/IT11 (io)

## ST72P622L2M1
designator U?
8-Bit MCU with 8k FASTROM, 384b RAM, Low Speed USB, LVD, WDG, 10-Bit ADC, Two Timers and SPI, 34-Pin SOIC; Published: 26-May-2004; LatestRevisionDate: 13-Apr-2006; LatestRevisionNote: IPC-7351 Footprint Added.; DatasheetVersion: rev2.3, Oct-2003; PackageVersion: rev1.7, Oct-2001; PackageReference: SO34S; Publisher: Altium Limited; PackageDescription: 34-Pin Small Outline Package 1.02 mm Pitch; ComponentLink1Description: Manufacturer Link; ComponentLink1URL: http://www.st.com/; ComponentLink2Description: Datasheet; ComponentLink2URL: http://www.st.com/stonline/products/literature/ds/6996/st72622l2.pdf
footprint SO34S_N (SOP, 34-Leads, Body 17.9x7.51mm, Pitch 1.02mm, IPC Medium Density)
footprint SO34S_L (SOP, 34-Leads, Body 17.9x7.51mm, Pitch 1.02mm, IPC High Density)
footprint SO34S_M (SOP, 34-Leads, Body 17.9x7.51mm, Pitch 1.02mm, IPC Low Density)
3D model SO34S (34-Pin Small Outline Package 1.02 mm Pitch)
pins: 1 PC3/SCK/IT10 (io), 2 PC2/IT9 (io), 3 OSCIN (in), 4 OSCOUT (out), 5 VSS (power), 6 VDD (power), 7 PC1 (io), 8 PB7 (HS)/PWM1/IT8 (io), 9 PB6 (HS)/PWM0/IT7/ICCDATA (io), 10 PB5 (HS)/ARTIC2/IT6/ICCCLK (io), 11 PB4 (HS)/ARTIC1/IT5 (io), 12 PB3 (HS)/ARTCLK (io), 13 PB2 (HS)/TDO (io), 14 PB1 (HS)/RDI (io), 15 PB0 (HS)/MCO (io), 16 PA7/AIN7 (io), 17 PA6/AIN6 (io), 18 PA5/AIN5 (io), 19 PA4/AIN4 (io), 20 PA3/AIN3/IT4 (io), 21 PA2/AIN2/IT3 (io), 22 PA1/AIN1/IT2 (io), 23 PA0/AIN0/IT1/USBOE (io), 24 VSSA (power), 25 USBDM (io), 26 USBDP (io), 27 USBVCC (power), 28 VDDA (power), 29 VPP (power), 30 ~{RESET} (io), 31 PC7 (io), 32 PC6/MOSI (io), 33 PC5/MISO/IT12 (io), 34 PC4/~{SS}/IT11 (io)

## ST72P623F2B1
designator U?
8-Bit MCU with 8k FASTROM, 384b RAM, Low Speed USB, LVD, WDG, 10-Bit ADC and Two Timers, 20-Pin PDIP; Published: 26-May-2004; LatestRevisionDate: 06-Jun-2005; LatestRevisionNote: Stylized 3D Model Added.; DatasheetVersion: rev2.3, Oct-2003; PackageVersion: Jul-2003; PackageReference: PDIP20; Publisher: Altium Limited; PackageDescription: DIP; 20 Leads; Row Spacing 7.62 mm; Pitch 2.54 mm; Code_JEDEC: MS-001-AD; ComponentLink1Description: Manufacturer Link; ComponentLink1URL: http://www.st.com/; ComponentLink2Description: Datasheet; ComponentLink2URL: http://www.st.com/stonline/products/literature/ds/6996/st72623f2.pdf
footprint PDIP20 (DIP; 20 Leads; Row Spacing 7.62 mm; Pitch 2.54 mm)
3D model PDIP20 (DIP; 20 Leads; Row Spacing 7.62 mm; Pitch 2.54 mm)
pins: 1 PB4 (HS)/ARTIC1/IT5 (io), 2 PB3 (HS)/ARTCLK (io), 3 PB2 (HS) (io), 4 PB1 (HS) (io), 5 PB0 (HS)/MCO (io), 6 PA2/AIN2/IT3 (io), 7 PA1/AIN1/IT2 (io), 8 PA0/AIN0/IT1/USBOE (io), 9 VSS (power), 10 USBDM (io), 11 USBDP (io), 12 USBVCC (power), 13 VDD (power), 14 VPP (power), 15 ~{RESET} (io), 16 OSCIN (in), 17 OSCOUT (out), 18 PB7 (HS)/PWM1/IT8 (io), 19 PB6 (HS)/PWM0/IT7/ICCDATA (io), 20 PB5 (HS)/ARTIC2/IT6/ICCCLK (io)

## ST72P623F2M1
designator U?
8-Bit MCU with 8k FASTROM, 384b RAM, Low Speed USB, LVD, WDG, 10-Bit ADC and Two Timers, 20-Pin SOIC; Published: 26-May-2004; LatestRevisionDate: 13-Apr-2006; LatestRevisionNote: IPC-7351 Footprint Added.; DatasheetVersion: rev2.3, Oct-2003; PackageVersion: Jul-2001; PackageReference: SO20; Publisher: Altium Limited; PackageDescription: 20-Pin Plastic Small Outline Integrated Circuit 1.27 mm Pitch; Code_JEDEC: MS-013-AC; Code_IPC: SOIC127P1030-20; ComponentLink1Description: Manufacturer Link; ComponentLink1URL: http://www.st.com/; ComponentLink2Description: Datasheet; ComponentLink2URL: http://www.st.com/stonline/products/literature/ds/6996/st72623f2.pdf
footprint SO20_N (SOIC, 20-Leads, Body 12.8x7.5mm, Pitch 1.27mm, IPC Medium Density)
footprint SO20_L (SOIC, 20-Leads, Body 12.8x7.5mm, Pitch 1.27mm, IPC High Density)
footprint SO20_M (SOIC, 20-Leads, Body 12.8x7.5mm, Pitch 1.27mm, IPC Low Density)
3D model SO20 (20-Pin Plastic Small Outline Integrated Circuit 1.27 mm Pitch)
pins: 1 PA2/AIN2/IT3 (io), 2 PA1/AIN1/IT2 (io), 3 PA0/AIN0/IT1/USBOE (io), 4 VSS (power), 5 USBDM (io), 6 USBDP (io), 7 USBVCC (power), 8 VDD (power), 9 VPP (power), 10 ~{RESET} (io), 11 OSCIN (in), 12 OSCOUT (out), 13 PB7 (HS)/PWM1/IT8 (io), 14 PB6 (HS)/PWM0/IT7/ICCDATA (io), 15 PB5 (HS)/ARTIC2/IT6/ICCCLK (io), 16 PB4 (HS)/ARTIC1/IT5 (io), 17 PB3 (HS)/ARTCLK (io), 18 PB2 (HS) (io), 19 PB1 (HS) (io), 20 PB0 (HS)/MCO (io)

## ST72T94C6B6
designator U?
8-Bit HCMOS MCU with 6K EPROM, EEPROM & 16-Bit Timer with Input Capture & Dual Output Compare; Published: 24-Aug-2001; LatestRevisionDate: 06-Jun-2005; LatestRevisionNote: Stylized 3D Model Added.; DatasheetVersion: Sep-1995; PackageVersion: Jan-2003; PackageReference: PDIP28; Publisher: Altium Limited; PackageDescription: DIP; 28 Leads; Row Spacing 15.24 mm; Pitch 2.54 mm; ComponentLink1Description: Manufacturer Link; ComponentLink1URL: http://www.st.com/
footprint PDIP28 (DIP; 28 Leads; Row Spacing 15.24 mm; Pitch 2.54 mm)
3D model PDIP28 (DIP; 28 Leads; Row Spacing 15.24 mm; Pitch 2.54 mm)
pins: 1 ~{INT}/VPP (in), 2 ~{RST} (io), 3 OSCI (in), 4 OSCO (out), 5 PB7 (io), 6 PB6 (io), 7 PB5 (io), 8 PB4 (io), 9 PB3 (io), 10 PB2 (io), 11 PB1 (io), 12 PB0 (io), 13 PC5 (io), 14 PC4 (io), 15 PC3 (io), 16 PC2 (io), 17 PC1(OCMP1) (io), 18 PC0(ICAP) (io), 19 PA7 (io), 20 PA6 (io), 21 PA5 (io), 22 PA4 (io), 23 PA3 (io), 24 PA2 (io), 25 PA1 (io), 26 PA0 (io), 27 VDD (power), 28 GND (power)

## ST72T94C6M6
designator U?
8-Bit HCMOS MCU with 6K EPROM, EEPROM & 16-Bit Timer with Input Capture & Dual Output Compare; Published: 24-Aug-2001; LatestRevisionDate: 13-Apr-2006; LatestRevisionNote: IPC-7351 Footprint Added.; DatasheetVersion: Sep-1995; PackageVersion: Jul-2001; PackageReference: SO28; Publisher: Altium Limited; PackageDescription: 28-Pin Plastic Small Outline Integrated Circuit 1.27 mm Pitch; ComponentLink1Description: Manufacturer Link; ComponentLink1URL: http://www.st.com/
footprint SO28_N (SOIC, 28-Leads, Body 17.9x7.5mm, Pitch 1.27mm, IPC Medium Density)
footprint SO28_L (SOIC, 28-Leads, Body 17.9x7.5mm, Pitch 1.27mm, IPC High Density)
footprint SO28_M (SOIC, 28-Leads, Body 17.9x7.5mm, Pitch 1.27mm, IPC Low Density)
3D model SO28 (28-Pin Plastic Small Outline Integrated Circuit 1.27 mm Pitch)
pins: 1 ~{INT}/VPP (in), 2 ~{RST} (io), 3 OSCI (in), 4 OSCO (out), 5 PB7 (io), 6 PB6 (io), 7 PB5 (io), 8 PB4 (io), 9 PB3 (io), 10 PB2 (io), 11 PB1 (io), 12 PB0 (io), 13 PC5 (io), 14 PC4 (io), 15 PC3 (io), 16 PC2 (io), 17 PC1(OCMP1) (io), 18 PC0(ICAP) (io), 19 PA7 (io), 20 PA6 (io), 21 PA5 (io), 22 PA4 (io), 23 PA3 (io), 24 PA2 (io), 25 PA1 (io), 26 PA0 (io), 27 VDD (power), 28 GND (power)